# Altium schematic symbol library AdamsParts.SchLib: 265 symbols (part 2 of 3)
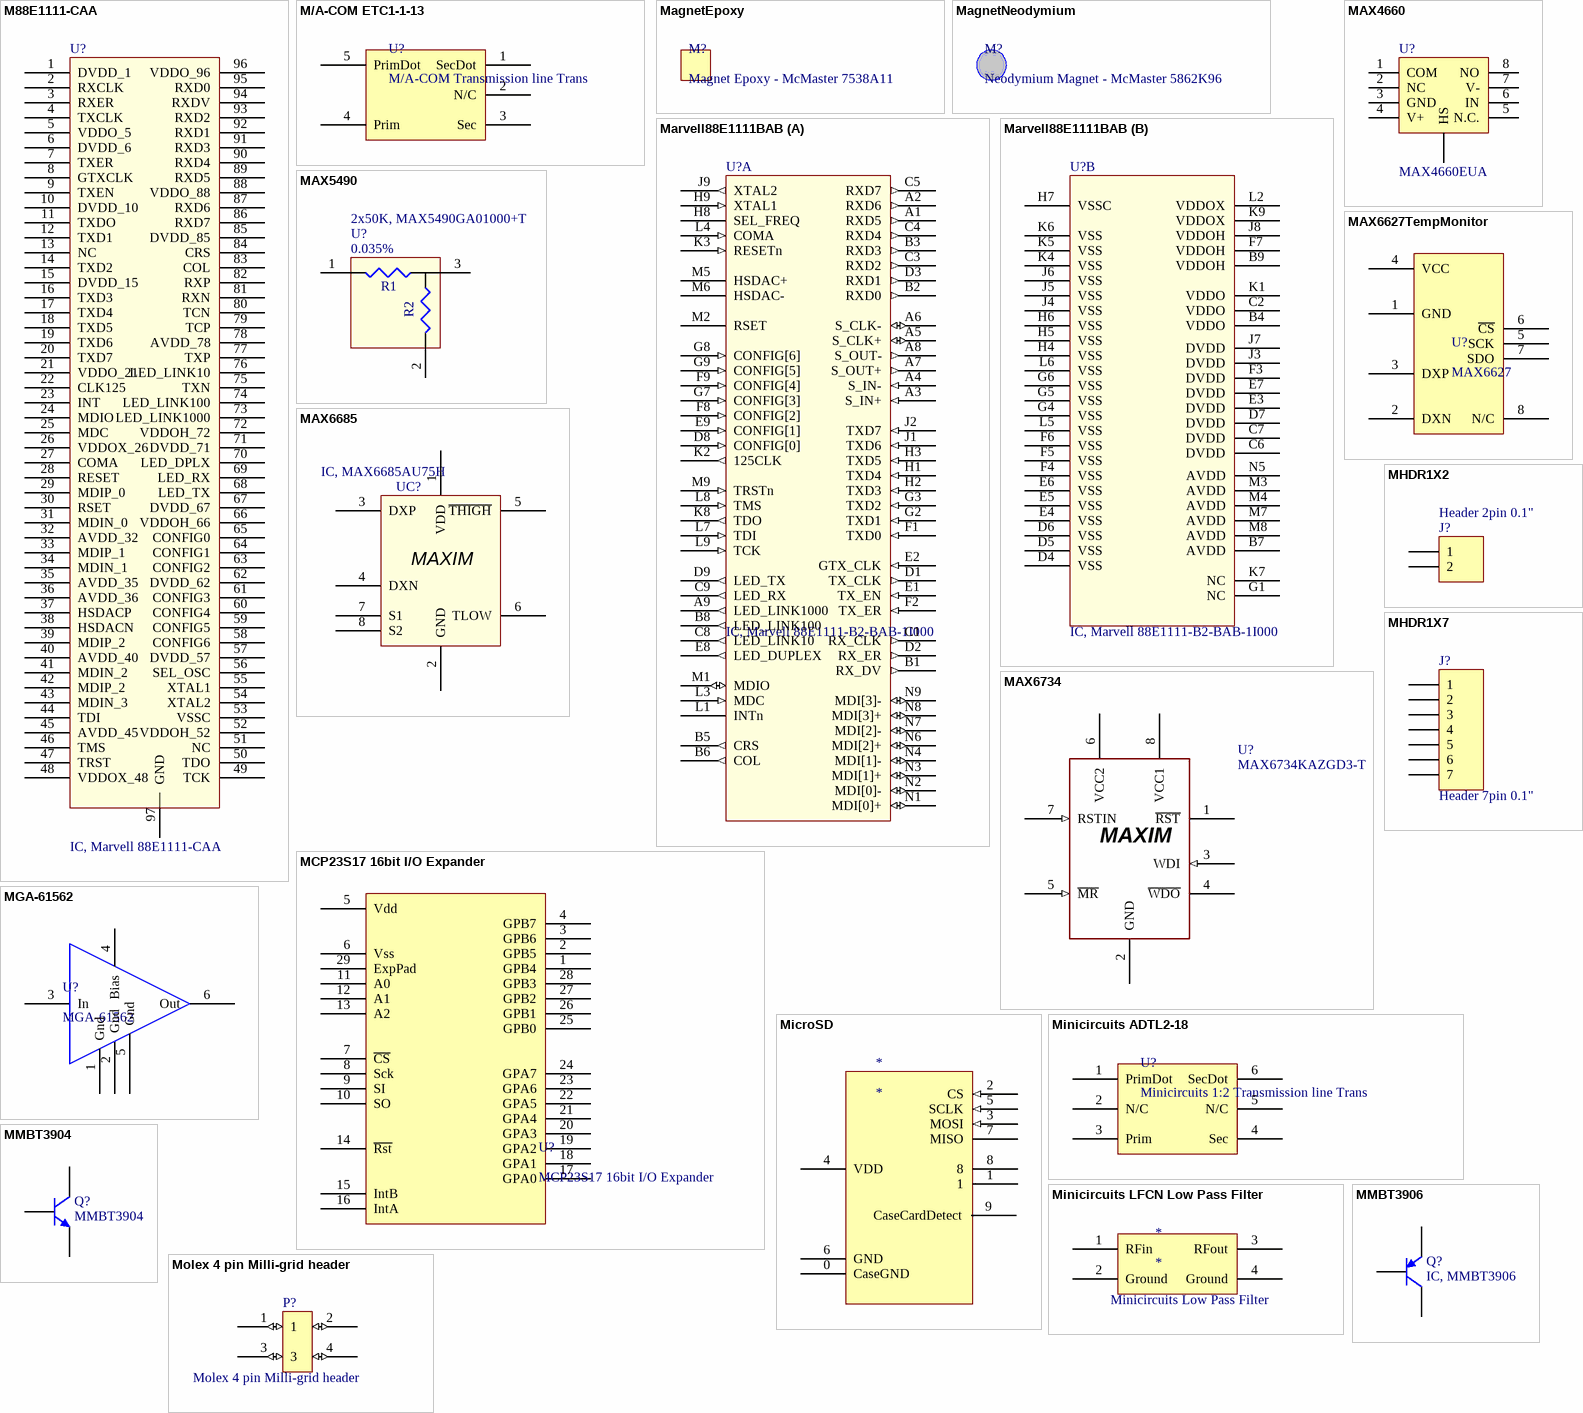
[diagram p21: symbols M88E1111-CAA to Molex 4 pin Milli-grid header]

## M88E1111-CAA
designator U?, comment IC, Marvell 88E1111-CAA
PHY 10/100/1000 Alaska Single-Port Gigabit Transceiver
footprint BCC_96 (96-lead Bump Chip Carrier)
pins: 1 DVDD_1, 2 RXCLK, 3 RXER, 4 TXCLK, 5 VDDO_5, 6 DVDD_6, 7 TXER, 8 GTXCLK, 9 TXEN, 10 DVDD_10, 11 TXDO, 12 TXD1, 13 NC, 14 TXD2, 15 DVDD_15, 16 TXD3, 17 TXD4, 18 TXD5, 19 TXD6, 20 TXD7, 21 VDDO_21, 22 CLK125, 23 INT, 24 MDIO, 25 MDC, 26 VDDOX_26, 27 COMA, 28 RESET, 29 MDIP_0, 30 RSET, 31 MDIN_0, 32 AVDD_32, 33 MDIP_1, 34 MDIN_1, 35 AVDD_35, 36 AVDD_36, 37 HSDACP, 38 HSDACN, 39 MDIP_2, 40 AVDD_40, 41 MDIN_2, 42 MDIP_2, 43 MDIN_3, 44 TDI, 45 AVDD_45, 46 TMS, 47 TRST, 48 VDDOX_48, 49 TCK, 50 TDO, 51 NC, 52 VDDOH_52, 53 VSSC, 54 XTAL2, 55 XTAL1, 56 SEL_OSC, 57 DVDD_57, 58 CONFIG6, 59 CONFIG5, 60 CONFIG4, 61 CONFIG3, 62 DVDD_62, 63 CONFIG2, 64 CONFIG1, 65 CONFIG0, 66 VDDOH_66, 67 DVDD_67, 68 LED_TX, 69 LED_RX, 70 LED_DPLX, 71 DVDD_71, 72 VDDOH_72, 73 LED_LINK1000, 74 LED_LINK100, 75 TXN, 76 LED_LINK10, 77 TXP, 78 AVDD_78, 79 TCP, 80 TCN, 81 RXN, 82 RXP, 83 COL, 84 CRS, 85 DVDD_85, 86 RXD7, 87 RXD6, 88 VDDO_88, 89 RXD5, 90 RXD4, 91 RXD3, 92 RXD1, 93 RXD2, 94 RXDV, 95 RXD0, 96 VDDO_96, 97 GND

## M/A-COM ETC1-1-13
designator U?, comment M/A-COM Transmission line Trans
footprint M/A-COM ETC1-1-13 (RF 1:1: transformer)
pins: 1 SecDot, 2 N/C, 3 Sec, 4 Prim, 5 PrimDot

## MagnetEpoxy
designator M?, comment Magnet Epoxy - McMaster 7538A11
Magnet Epoxy

## MagnetNeodymium
designator M?, comment Neodymium Magnet - McMaster 5862K96
Neodymium Magnet

## Marvell88E1111BAB
designator U?, comment IC, Marvell 88E1111-B2-BAB-1I000
PHY 10/100/1000 Alaska Single-Port Gigabit Transceiver; Manufacturer: Marvell; Manufacturers P/N: 88E1111-B2-BAB-1I000
footprint BGA117C100P13X9_1400X1000X154 (BGA, 117-Leads, Body 14.0x10.0mm,  Pitch 1.00mm)
part A pins: A1 RXD5 (out), A2 RXD6 (out), A3 S_IN+ (in), A4 S_IN- (in), A5 S_CLK+ (io), A6 S_CLK- (io), A7 S_OUT+ (out), A8 S_OUT- (out), A9 LED_LINK1000 (out), B1 RX_DV (out), B2 RXD0 (out), B3 RXD3 (out), B5 CRS (out), B6 COL (out), B8 LED_LINK100 (out), C1 RX_CLK (out), C3 RXD2 (out), C4 RXD4 (out), C5 RXD7 (out), C8 LED_LINK10 (out), C9 LED_RX (out), D1 TX_CLK (out), D2 RX_ER (out), D3 RXD1 (out), D8 CONFIG[0] (in), D9 LED_TX (out), E1 TX_EN (in), E2 GTX_CLK (in), E8 LED_DUPLEX (out), E9 CONFIG[1] (in), F1 TXD0 (in), F2 TX_ER (in), F8 CONFIG[2] (in), F9 CONFIG[4] (in), G2 TXD1 (in), G3 TXD2 (in), G7 CONFIG[3] (in), G8 CONFIG[6] (in), G9 CONFIG[5] (in), H1 TXD4 (in), H2 TXD3 (in), H3 TXD5 (in), H8 SEL_FREQ, H9 XTAL1 (in), J1 TXD6 (in), J2 TXD7 (in), J9 XTAL2 (out), K2 125CLK (out), K3 RESETn (in), K8 TDO (out), L1 INTn (oc), L3 MDC (in), L4 COMA (in), L7 TDI (in), L8 TMS (in), L9 TCK (in), M1 MDIO (io), M2 RSET, M5 HSDAC+, M6 HSDAC-, M9 TRSTn (in), N1 MDI[0]+ (io), N2 MDI[0]- (io), N3 MDI[1]+ (io), N4 MDI[1]- (io), N6 MDI[2]+ (io), N7 MDI[2]- (io), N8 MDI[3]+ (io), N9 MDI[3]- (io)
part B pins: B4 VDDO, B7 AVDD, B9 VDDOH, C2 VDDO, C6 DVDD, C7 DVDD, D4 VSS (power), D5 VSS (power), D6 VSS (power), D7 DVDD, E3 DVDD, E4 VSS (power), E5 VSS (power), E6 VSS (power), E7 DVDD, F3 DVDD, F4 VSS (power), F5 VSS (power), F6 VSS (power), F7 VDDOH, G1 NC (hiz), G4 VSS (power), G5 VSS (power), G6 VSS (power), H4 VSS (power), H5 VSS (power), H6 VSS (power), H7 VSSC (power), J3 DVDD, J4 VSS (power), J5 VSS (power), J6 VSS (power), J7 DVDD, J8 VDDOH, K1 VDDO, K4 VSS (power), K5 VSS (power), K6 VSS (power), K7 NC (hiz), K9 VDDOX (power), L2 VDDOX (power), L5 VSS (power), L6 VSS (power), M3 AVDD (power), M4 AVDD (power), M7 AVDD (power), M8 AVDD (power), N5 AVDD (power)

## MAX4660
designator U?, comment MAX4660EUA
Analog Switch, 150mA, 25 Ohm (38 Ohm); Manufacturer: Maxim Integrated Products; Footprint: 8-UMAX; Manufacturers P/N: MAX4660EUA
footprint MSOP8-EP
pins: 1 COM, 2 NC, 3 GND (power), 4 V+ (power), 5 N.C., 6 IN, 7 V- (power), 8 NO, 9 HS (power) "GND"

## MAX5490
designator U?, comment 2x50K, MAX5490GA01000+T  Param: 0.035%
100k Precision-Matched Resistor-Divider 0.035%; Manufacturer: Maxim Integrated Products; Manufacturers P/N: MAX5490GA01000+T-ND; Footprint: SOT-23
footprint SOT23
pins: 1 P1, 2 P2, 3 P3
text: R1; R2

## MAX6627TempMonitor
designator U?, comment MAX6627
Temperature Monitor
footprint SOT23-8 (SSOP; 8 Leads; Body Width 1.6 mm; Pitch 0.65 mm)
pins: 1 GND, 2 DXN, 3 DXP, 4 VCC, 5 SCK, 6 ~{CS}, 7 SDO, 8 N/C

## MAX6685
designator UC?, comment IC, MAX6685AU75H
Dual-Output Remote-Junction Temperature Switch
footprint UMAX8 (Shrink Small Outline; 8 Leads; Body Width 3 mm; Pitch 0.65 mm)
footprint uSOP8
pins: 1 VDD (power), 2 GND (power), 3 DXP, 4 DXN, 5 ~{THIGH}, 6 TLOW, 7 S1, 8 S2
text: MAXIM

## MAX6734
designator U?, comment MAX6734KAZGD3-T
Watchdog, uP Supervisory Circuit; Manufacturer: Maxim Integrated Products; Footprint: *; Manufacturers P/N: MAX6734KAZGD3-T
footprint SOT23-8
pins: 1 ~{RST} (oc), 2 GND (power), 3 WDI (in), 4 ~{WDO} (oc), 5 ~{MR} (in), 6 VCC2 (power), 7 RSTIN (in), 8 VCC1 (power)
text: MAXIM

## MCP23S17 16bit I/O Expander
designator U?
footprint QFN65P600X600X100-28M (QFN, 28-Leads, Body 6.0x6.0mm (max), Pitch 0.65mm, IPC Low Density)
pins: 1 GPB4, 2 GPB5, 3 GPB6, 4 GPB7, 5 Vdd, 6 Vss, 7 ~{CS}, 8 Sck, 9 SI, 10 SO, 11 A0, 12 A1, 13 A2, 14 ~{Rst}, 15 IntB, 16 IntA, 17 GPA0, 18 GPA1, 19 GPA2, 20 GPA3, 21 GPA4, 22 GPA5, 23 GPA6, 24 GPA7, 25 GPB0, 26 GPB1, 27 GPB2, 28 GPB3, 29 ExpPad

## MGA-61562
designator U?
Low noise amplifier
footprint MGA-61562
pins: 1 Gnd, 2 Gnd, 3 In, 4 Bias, 5 Gnd, 6 Out

## MHDR1X2
designator J?, comment Header 2pin 0.1"
Header, 2-Pin; Manufacturer: Digikey; Manufacturers P/N: A26508-02-ND; LatestRevisionDate: 17-Jul-2002; LatestRevisionNote: Re-released for DXP Platform.; Publisher: Altium Limited
footprint MHDR1X2
signal-integrity model Connector
pins: 1, 2

## MHDR1X7
designator J?, comment Header 7pin 0.1"
Header, 7-Pin (Any equivalent - may need to be value added); Manufacturer: Digikey; Manufacturers P/N: A26508-07-ND; LatestRevisionDate: 17-Jul-2002; LatestRevisionNote: Re-released for DXP Platform.; Publisher: Altium Limited
footprint MHDR1X7 (Connector; Header; 7 Position)
signal-integrity model Connector
pins: 1, 2, 3, 4, 5, 6, 7

## MicroSD
designator *
footprint MicroSD (MicroSD card from Multicomp (TFCMF-20815B0T0))
pins: 0 CaseGND, 1, 2 CS (in), 3 MOSI (in), 4 VDD, 5 SCLK (in), 6 GND, 7 MISO (oc), 8, 9 CaseCardDetect

## Minicircuits ADTL2-18
designator U?, comment Minicircuits 1:2 Transmission line Trans
footprint ADTL2-18 (Minicircuits 1:2 balun)
pins: 1 PrimDot, 2 N/C, 3 Prim, 4 Sec, 5 N/C, 6 SecDot

## Minicircuits LFCN Low Pass Filter
designator *
pins: 1 RFin, 2 Ground, 3 RFout, 4 Ground
text: Minicircuits Low Pass Filter

## MMBT3904
designator Q?
Transistor, NPN Switching; Manufacturer: Fairchild Semiconductor; Footprint: SOT23; Manufacturers P/N: MMBT3904
signal-integrity model MMBT3904
footprint SOT23
pins: 1 B, 2 E, 3 C

## MMBT3906
designator Q?, comment IC, MMBT3906
PNP Switching Transistor; Published: 17-Sep-2003; DatasheetDocument: 11-Apr-2000; PackageDocument: May-1999; PackageReference: SOT23; Publisher: Altium Limited; ComponentLink1Description: Manufacturer Link; ComponentLink1URL: http://www.semiconductors.philips.com/; ComponentLink2Description: Datasheet; ComponentLink2URL: http://www.semiconductors.philips.com/acrobat/datasheets/MMBT3906_2.pdf
footprint SOT23 (SOT-23; 3 Leads; Body 3.0 x 2.5 mm, inc. leads (LxW max))
simulation model QMMBT3906 (PNP)
signal-integrity model MMBT3906
pins: 1 B, 2 E, 3 C

## Molex 4 pin Milli-grid header
designator P?
footprint Molex 4 pin Milli-grid header (Footprint not found)
pins: 1 (io), 2 (io), 3 (io), 4 (io)

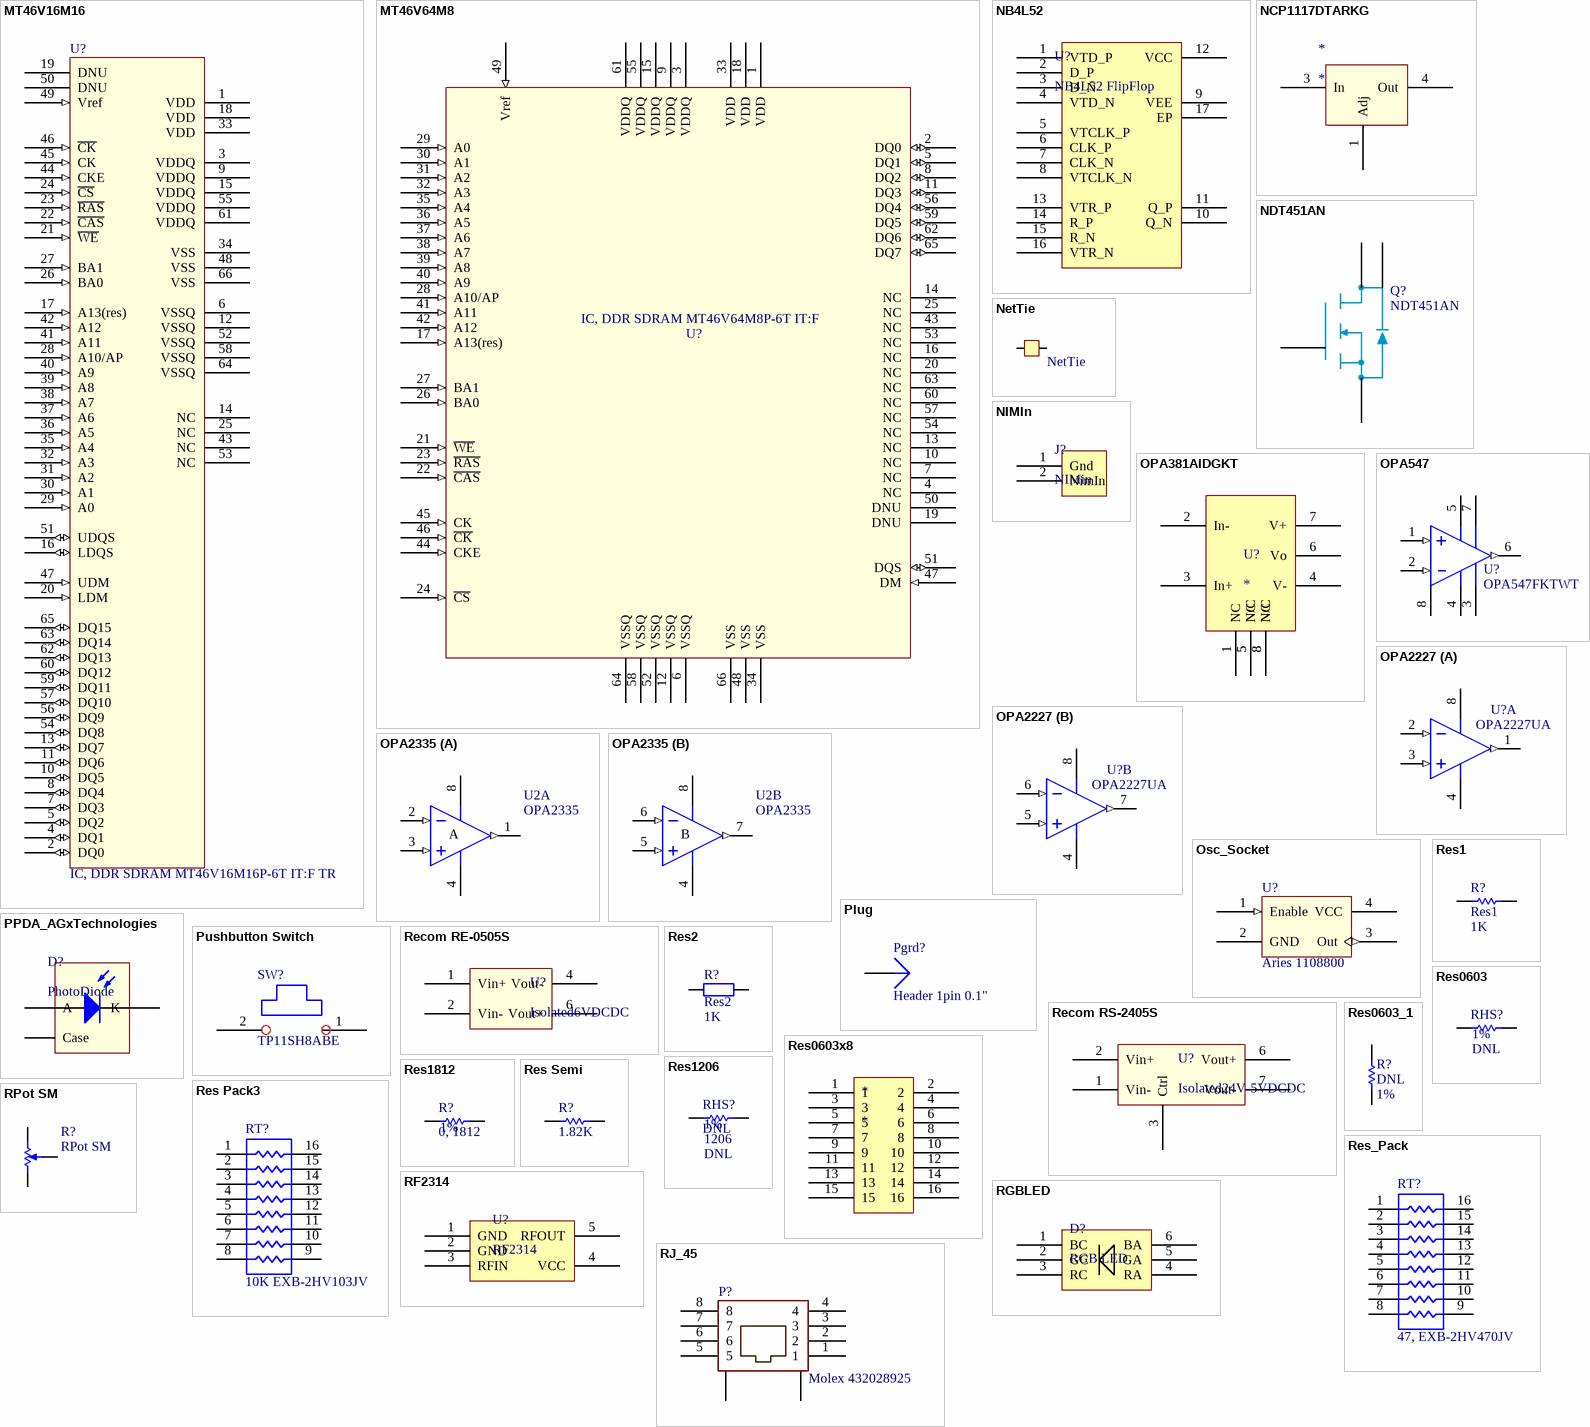
[diagram p7: symbols MT46V16M16 to RPot SM]

## MT46V16M16
designator U?, comment IC, DDR SDRAM MT46V16M16P-6T IT:F TR
256Mb, 4Meg X 16 X 4 banks DDR SDRAM
footprint TSOP-66
pins: 1 VDD (power), 2 DQ0 (io), 3 VDDQ (power), 4 DQ1 (io), 5 DQ2 (io), 6 VSSQ (power), 7 DQ3 (io), 8 DQ4 (io), 9 VDDQ (power), 10 DQ5 (io), 11 DQ6 (io), 12 VSSQ (power), 13 DQ7 (io), 14 NC, 15 VDDQ (power), 16 LDQS (io), 17 A13(res) (in), 18 VDD (power), 19 DNU, 20 LDM (in), 21 ~{WE} (in), 22 ~{CAS} (in), 23 ~{RAS} (in), 24 ~{CS} (in), 25 NC, 26 BA0 (in), 27 BA1 (in), 28 A10/AP (in), 29 A0 (in), 30 A1 (in), 31 A2 (in), 32 A3 (in), 33 VDD (power), 34 VSS (power), 35 A4 (in), 36 A5 (in), 37 A6 (in), 38 A7 (in), 39 A8 (in), 40 A9 (in), 41 A11 (in), 42 A12 (in), 43 NC, 44 CKE (in), 45 CK (in), 46 ~{CK} (in), 47 UDM (in), 48 VSS (power), 49 Vref (in), 50 DNU, 51 UDQS (io), 52 VSSQ (power), 53 NC, 54 DQ8 (io), 55 VDDQ (power), 56 DQ9 (io), 57 DQ10 (io), 58 VSSQ (power), 59 DQ11 (io), 60 DQ12 (io), 61 VDDQ (power), 62 DQ13 (io), 63 DQ14 (io), 64 VSSQ (power), 65 DQ15 (io), 66 VSS (power)

## MT46V64M8
designator U?, comment IC, DDR SDRAM MT46V64M8P-6T IT:F
512 Mb, 16Meg X 8 X 4 banks DDR SDRAM; Manufacturer: Micron Technology; Manufacturers P/N: MT46V64M8P-6T IT:F
footprint TSOP-66
pins: 1 VDD (power), 2 DQ0 (io), 3 VDDQ (power), 4 NC, 5 DQ1 (io), 6 VSSQ (power), 7 NC, 8 DQ2 (io), 9 VDDQ (power), 10 NC, 11 DQ3 (io), 12 VSSQ (power), 13 NC, 14 NC, 15 VDDQ (power), 16 NC, 17 A13(res) (in), 18 VDD (power), 19 DNU, 20 NC, 21 ~{WE} (in), 22 ~{CAS} (in), 23 ~{RAS} (in), 24 ~{CS} (in), 25 NC, 26 BA0 (in), 27 BA1 (in), 28 A10/AP (in), 29 A0 (in), 30 A1 (in), 31 A2 (in), 32 A3 (in), 33 VDD (power), 34 VSS (power), 35 A4 (in), 36 A5 (in), 37 A6 (in), 38 A7 (in), 39 A8 (in), 40 A9 (in), 41 A11 (in), 42 A12 (in), 43 NC, 44 CKE (in), 45 CK (in), 46 ~{CK} (in), 47 DM (in), 48 VSS (power), 49 Vref (in), 50 DNU, 51 DQS (io), 52 VSSQ (power), 53 NC, 54 NC, 55 VDDQ (power), 56 DQ4 (io), 57 NC, 58 VSSQ (power), 59 DQ5 (io), 60 NC, 61 VDDQ (power), 62 DQ6 (io), 63 NC, 64 VSSQ (power), 65 DQ7 (io), 66 VSS (power)

## NB4L52
designator U?, comment NB4L52 FlipFlop
FlipFlop fully differential GHz
footprint QFN50P325X325X100-16N (QFN, 16-Leads, Body 3.3x3.3mm (max), Pitch 0.50mm, IPC Medium Density)
pins: 1 VTD_P, 2 D_P, 3 D_N, 4 VTD_N, 5 VTCLK_P, 6 CLK_P, 7 CLK_N, 8 VTCLK_N, 9 VEE, 10 Q_N, 11 Q_P, 12 VCC, 13 VTR_P, 14 R_P, 15 R_N, 16 VTR_N, 17 EP

## NCP1117DTARKG
designator *
footprint TO-263 (D2-PAK/TO-263-AB; 3 Leads (1 Cropped); Body 15.9 (inc. leads) x 10.4 mm (LxW max))
pins: 1 Adj, 3 In, 4 Out

## NDT451AN
designator Q?
N type Mosfet  - 7.3A, 30V
footprint sot223
pins: 1 G, 2 D, 3 S, 4 Tab

## NetTie
designator NT?  (net tie, no BOM)
footprint NetTie
pins: 0, 1

## NIMIn
designator J?, comment NIMin
footprint NIMin
pins: 1 Gnd, 2 NimIn

## OPA381AIDGKT
designator U?
OPA381
footprint TSOP65P490X110-8N (TSOP, 8-Leads, Body 3.1x3.1mm (max), Pitch 0.65mm, IPC Medium Density)
pins: 1 NC, 2 In-, 3 In+, 4 V-, 5 N/C, 5 NC, 6 Vo, 7 V+, 8 N/C, 8 NC

## OPA547
designator U?, comment OPA547FKTWT
Amp, High-Voltage, High-Current Op Amp; Manufacturer: Texas Instruments; Footprint: TO-263-7; Manufacturers P/N: OPA547FKTWT
footprint D2PAK-7PIN
pins: 1 IN+ (in), 2 IN- (in), 3 Ilim, 4 Vss (power), 5 Vcc (power), 6 OUT (out), 7 E/S, 8 SH (power)

## OPA2227
designator U?, comment OPA2227UA
Amp, High Precision, Low Noise  Op Amp; Manufacturer: Texas Instruments; Footprint: *; Manufacturers P/N: OPA2227UA
footprint SO8
part A pins: 1 OUT (out), 2 IN- (in), 3 IN+ (in), 4 GND (power), 8 VDD (power)
part B pins: 4 GND (power), 5 IN+ (in), 6 IN- (in), 7 OUT (out), 8 VDD (power)

## OPA2335
designator U2
Dual Precision Operational Amplifier; Note: 206; Published: 8-Jun-2000; LatestRevisionDate: 29-May-2009; LatestRevisionNote: Component Body Added.; DatasheetVersion: Jan-1996; PackageVersion: N8 1002; PackageReference: N8; Publisher: Altium Limited; PackageDescription: DIP, Plastic, 8-Pin, Row Spacing 7.62 mm, Pitch 2.54 mm; ComponentLink1Description: Manufacturer Link; ComponentLink1URL: http://www.linear.com/; ComponentLink2Description: Datasheet; ComponentLink2URL: http://www.linear.com/pc/downloadDocument.do?navId=H0,C1,C1154,C1009,C1021,P1223,D3743
footprint SO8
pins on every part: 4 V- (power), 8 V+ (power)
part A pins: 1 OUT (out), 2 IN- (in), 3 IN+ (in)
part B pins: 5 IN+ (in), 6 IN- (in), 7 OUT (out)
part A text: A
part B text: B

## Osc_Socket
designator U?, comment Aries 1108800
CONN, Oscillator Socket, Half Size; Manufacturer: Aries Electronics; Footprint: *; Manufacturers P/N: 1108800
footprint XTAL-OSC/DIP8 (Footprint not found)
pins: 1 Enable (in), 2 GND (power), 3 Out (out), 4 VCC (power)

## Plug
designator Pgrd?, comment Header 1pin 0.1"
Header, 0.1"  1-Pin straight (Any equivalent - may need to be value added); Manufacturer: Digikey; Manufacturers P/N: A26508-01-ND; Footprint: *
footprint PIN1
signal-integrity model Connector
pins: 1

## PPDA_AGxTechnologies
designator D?, comment PhotoDiode
PhotoDiode 1100nm to 1650nm
footprint PPDA (Photodiode with pigtail)
pins: 1 K, 2 A, 3 Case

## Pushbutton Switch
designator SW?, comment TP11SH8ABE
Switch, Pushbutton FrontPanel; Manufacturer: C&K Components; Footprint: *; Manufacturers P/N: TP11SH8ABE
footprint TP11SH8ABE
pins: 1, 2

## Recom RE-0505S
designator U?, comment Isolated6VDCDC
Isolated 6V DC-DC
footprint RECOM_DCDC_SIP (DC-DC Converter)
pins: 1 Vin+, 2 Vin-, 4 Vout-, 6 Vout+

## Recom RS-2405S
designator U?, comment Isolated24V-5VDCDC
18-36V input, 5V output
footprint RECOM_RS-2405S (DC-DC Converter)
pins: 1 Vin-, 2 Vin+, 3 Ctrl, 5 NC hidden, 6 Vout+, 7 Vout-, 8 NC hidden

## Res1
designator R?  value 1K
Resistor; Published: 8-Jun-2000; LatestRevisionDate: 17-Jul-2002; LatestRevisionNote: Re-released for DXP Platform.; PackageReference: AXIAL-0.3; Publisher: Altium Limited
simulation model RESISTOR (Resistor)
signal-integrity model Res
footprint Model Name (Footprint not found)
footprint Model Name (Footprint not found)
footprint AXIAL-0.3 (Axial Device, Thru-Hole; 2 Leads; 0.3 in Pin Spacing)
footprint AXIAL-0.4 (Axial Device, Thru-Hole; 2 Leads; 0.4 in Pin Spacing)
footprint AXIAL-0.5 (Axial Device, Thru-Hole; 2 Leads; 0.5 in Pin Spacing)
footprint AXIAL-0.6 (Axial Device, Thru-Hole; 2 Leads; 0.6 in Pin Spacing)
footprint AXIAL-0.7 (Axial Device, Thru-Hole; 2 Leads; 0.7 in Pin Spacing)
footprint AXIAL-0.8 (Axial Device, Thru-Hole; 2 Leads; 0.8 in Pin Spacing)
footprint AXIAL-0.9 (Axial Device, Thru-Hole; 2 Leads; 0.9 in Pin Spacing)
footprint AXIAL-1.0 (Axial Device, Thru-Hole; 2 Leads; 1.0 in Pin Spacing)
footprint Model Name (Footprint not found)
pins: 1, 2

## Res2
designator R?  value 1K
Resistor; Published: 8-Jun-2000; LatestRevisionDate: 17-Jul-2002; LatestRevisionNote: Re-released for DXP Platform.; PackageReference: AXIAL-0.4; Publisher: Altium Limited
footprint AXIAL-0.4 (Axial Device, Thru-Hole; 2 Leads; 0.4 in Pin Spacing)
simulation model RESISTOR (Resistor)
signal-integrity model Res
pins: 1, 2

## Res0603
designator RHS?  value DNL  Param: 1%
Resistor; Param1: 100ppm/C; TechInfo: *
simulation model RESISTOR (Resistor)
signal-integrity model Res
footprint 0603
footprint 0805
pins: 1, 2

## Res0603_1
designator R?, comment value DNL  Param: 1%  (hidden comment: Res0603)
DNL; Part constraints: 294 0603 1%; Param1: 100ppm/C; CanPurchaseFrom: Digikey; TechInfo: *
simulation model RESISTOR (Resistor)
signal-integrity model Res
footprint 0603
footprint 0805
pins: 1, 2

## Res0603x8
designator *
pins: 1, 2, 3, 4, 5, 6, 7, 8, 9, 10, 11, 12, 13, 14, 15, 16

## Res1206
designator RHS?, comment DNL  Param: 1%  Footprint: 1206
Resistor; Param1: 100ppm/C; TechInfo: *; Value: DNL
simulation model RESISTOR (Resistor)
signal-integrity model Res
footprint CR1608-0603M (Chip Resistor; Body 1.6 x 0.8 mm (LxW typ))
footprint 1206
pins: 1, 2

## Res1812
designator R?, comment 0, 1812  Param: 1%
Resistor; Param1: 100ppm/C; Value: DNL; TechInfo: *
simulation model RESISTOR (Resistor)
signal-integrity model Res
pins: 1, 2

## Res Pack3
designator RT?, comment 10K EXB-2HV103JV
Isolated Resistor Network; Published: 24-Mar-1999; LatestRevisionDate: 17-Jul-2002; LatestRevisionNote: Re-released for DXP Platform.; Publisher: Altium Limited
footprint SO-G16/Z8.5 (Small Outline; 16 Leads; Body Width 5.6 mm; Pitch 1.27 mm)
simulation model respack_8 (Spice Subcircuit)
footprint 0402_Array_2HV
pins: 1, 2, 3, 4, 5, 6, 7, 8, 9, 10, 11, 12, 13, 14, 15, 16

## Res Semi
designator R?, comment 1.82K
RES 1.82K OHM 1/10W 1% 0603 SMD (or Equivalent); Manufacturer: Vishay/Dale; Manufacturers P/N: CRCW06031K82FKEA; Published: 8-Jun-2000; LatestRevisionDate: 17-Jul-2002; LatestRevisionNote: Re-released for DXP Platform.; Publisher: Altium Limited
footprint CR1608-0603
simulation model RES (Semiconductor Resistor)
signal-integrity model Res Semi
pins: 1, 2

## Res_Pack
designator RT?, comment 47, EXB-2HV470JV
8x 0402 RES ARRAY 47 OHM 5%  SMD; Manufacturer: Panasonic - ECG; Footprint: 0402_Array_2HV; Manufacturers P/N: EXB-2HV470JV
footprint 0402_Array_2HV
pins: 1, 2, 3, 4, 5, 6, 7, 8, 9, 10, 11, 12, 13, 14, 15, 16

## RF2314
designator U?
footprint RF2314 (SOT23, 5-Leads, Body 2.9x3.0mm (max), Pitch 0.95mm, IPC Medium Density)
pins: 1 GND, 2 GND, 3 RFIN, 4 VCC, 5 RFOUT

## RGBLED
designator D?, comment RGB LED
footprint RGBLED
pins: 1 BC, 2 GC, 3 RC, 4 RA, 5 GA, 6 BA

## RJ_45
designator P?, comment Molex 432028925
CONN, RJ45; Manufacturers P/N: 0432028925; Footprint: *; Manufacturer: Molex
footprint RJ45
pins: 1, 2, 3, 4, 5, 6, 7, 8, 9 GND (power), 10 GND (power)

## RPot SM
designator R?
Square Trimming Potentiometer; Published: 17-Dec-2003; DatasheetVersion: Oct-2003; PackageReference: POT4MM-2; Publisher: Altium Limited; ComponentLink1Description: Manufacturer Link; ComponentLink1URL: http://bourns.com/2/search.html
footprint POT4MM-2 (Square Trimming Potentiometer)
pins: CCW -, CW +, W
1 alternate drawing of the same symbol

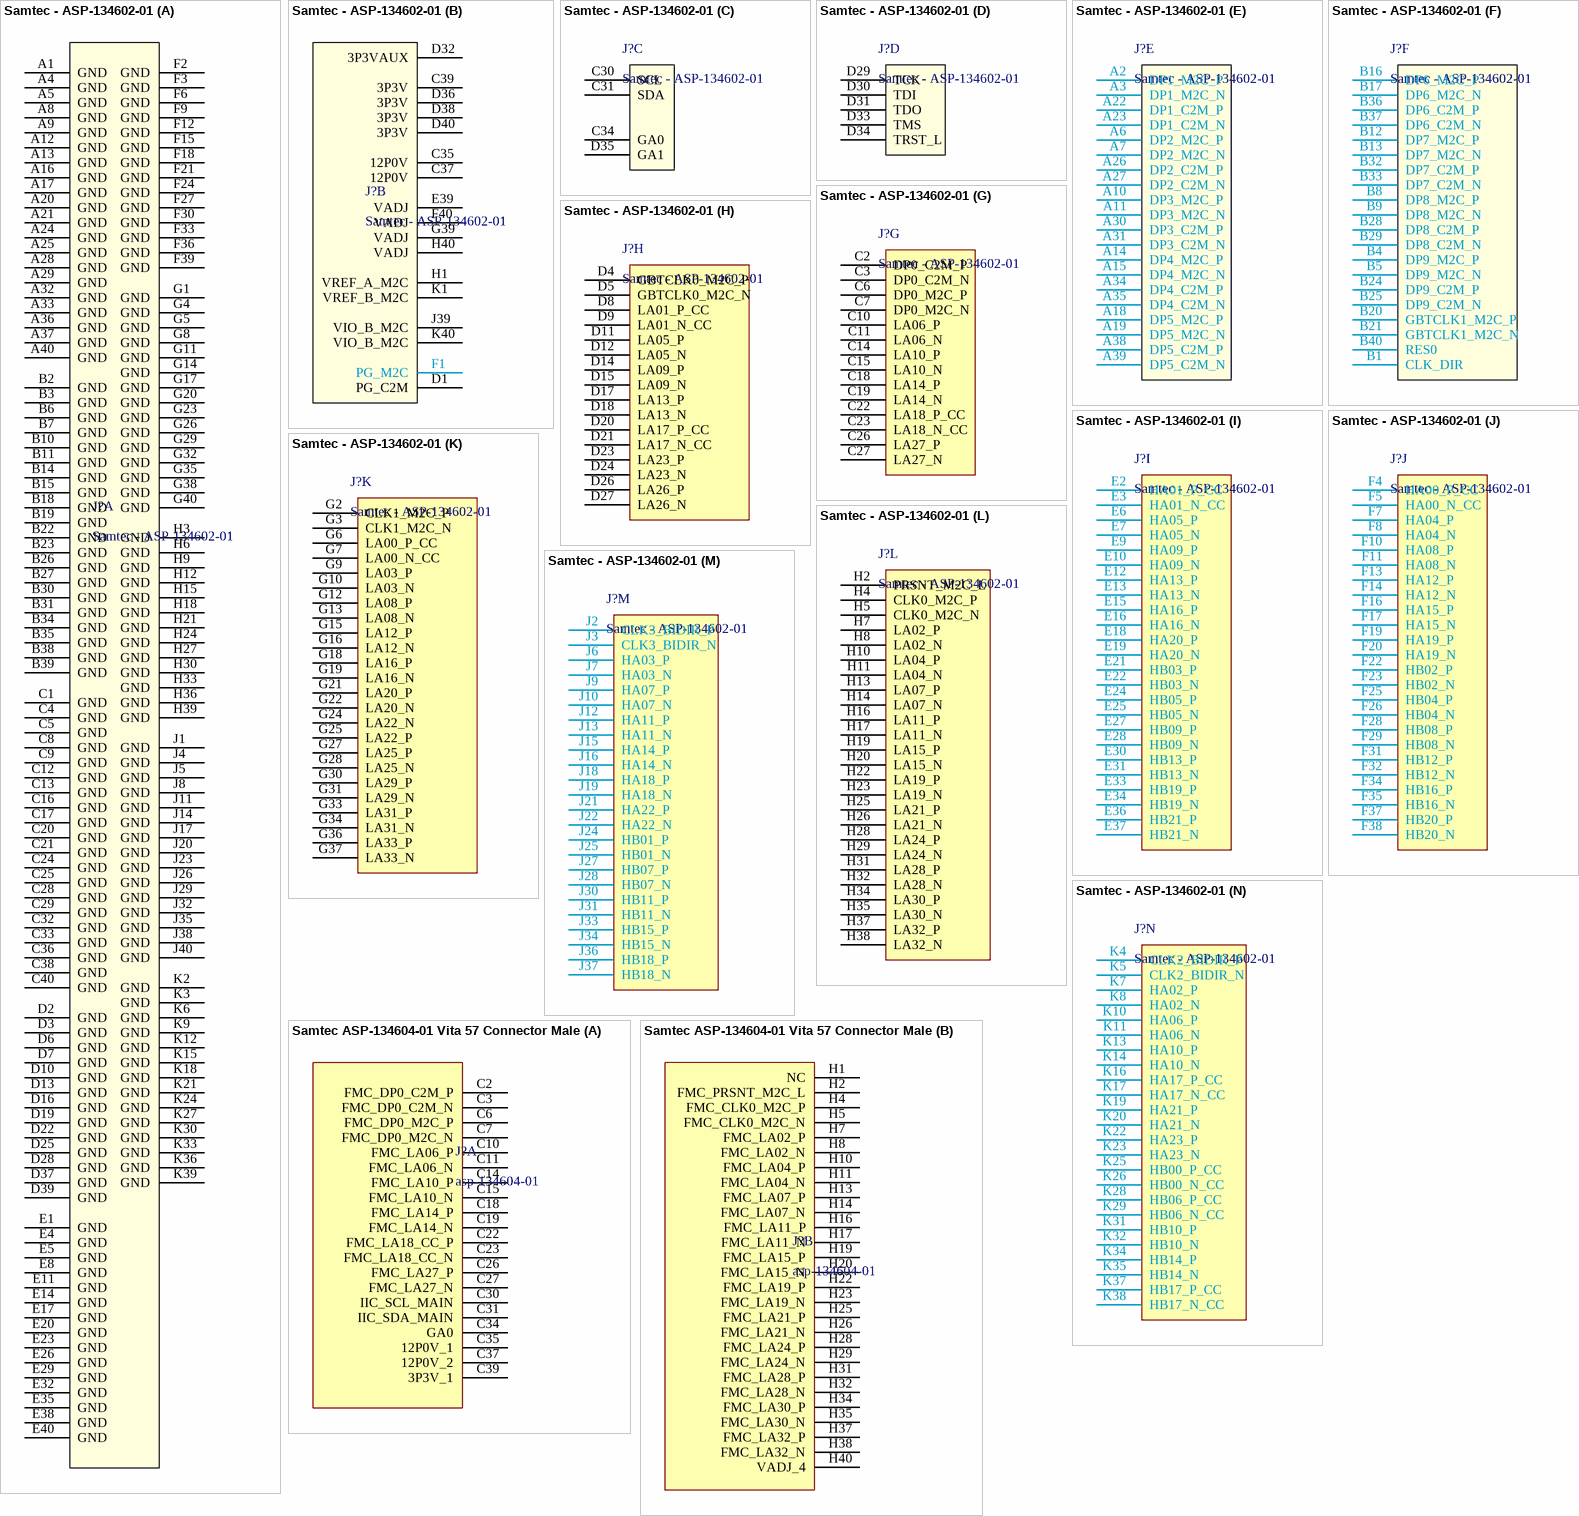
[diagram p8: symbols Samtec - ASP-134602-01 to Samtec ASP-134604-01 Vita 57 Connector Male]

## Samtec - ASP-134602-01
designator J?
footprint FCM-ASP_134602-01 (400pin FCM connector VITA)
part A pins: A1 GND, A4 GND, A5 GND, A8 GND, A9 GND, A12 GND, A13 GND, A16 GND, A17 GND, A20 GND, A21 GND, A24 GND, A25 GND, A28 GND, A29 GND, A32 GND, A33 GND, A36 GND, A37 GND, A40 GND, B2 GND, B3 GND, B6 GND, B7 GND, B10 GND, B11 GND, B14 GND, B15 GND, B18 GND, B19 GND, B22 GND, B23 GND, B26 GND, B27 GND, B30 GND, B31 GND, B34 GND, B35 GND, B38 GND, B39 GND, C1 GND, C4 GND, C5 GND, C8 GND, C9 GND, C12 GND, C13 GND, C16 GND, C17 GND, C20 GND, C21 GND, C24 GND, C25 GND, C28 GND, C29 GND, C32 GND, C33 GND, C36 GND, C38 GND, C40 GND, D2 GND, D3 GND, D6 GND, D7 GND, D10 GND, D13 GND, D16 GND, D19 GND, D22 GND, D25 GND, D28 GND, D37 GND, D39 GND, E1 GND, E4 GND, E5 GND, E8 GND, E11 GND, E14 GND, E17 GND, E20 GND, E23 GND, E26 GND, E29 GND, E32 GND, E35 GND, E38 GND, E40 GND, F2 GND, F3 GND, F6 GND, F9 GND, F12 GND, F15 GND, F18 GND, F21 GND, F24 GND, F27 GND, F30 GND, F33 GND, F36 GND, F39 GND, G1 GND, G4 GND, G5 GND, G8 GND, G11 GND, G14 GND, G17 GND, G20 GND, G23 GND, G26 GND, G29 GND, G32 GND, G35 GND, G38 GND, G40 GND, H3 GND, H6 GND, H9 GND, H12 GND, H15 GND, H18 GND, H21 GND, H24 GND, H27 GND, H30 GND, H33 GND, H36 GND, H39 GND, J1 GND, J4 GND, J5 GND, J8 GND, J11 GND, J14 GND, J17 GND, J20 GND, J23 GND, J26 GND, J29 GND, J32 GND, J35 GND, J38 GND, J40 GND, K2 GND, K3 GND, K6 GND, K9 GND, K12 GND, K15 GND, K18 GND, K21 GND, K24 GND, K27 GND, K30 GND, K33 GND, K36 GND, K39 GND
part B pins: C35 12P0V, C37 12P0V, C39 3P3V, D1 PG_C2M, D32 3P3VAUX, D36 3P3V, D38 3P3V, D40 3P3V, E39 VADJ, F1 PG_M2C, F40 VADJ, G39 VADJ, H1 VREF_A_M2C, H40 VADJ, J39 VIO_B_M2C, K1 VREF_B_M2C, K40 VIO_B_M2C
part C pins: C30 SCL, C31 SDA, C34 GA0, D35 GA1
part D pins: D29 TCK, D30 TDI, D31 TDO, D33 TMS, D34 TRST_L
part E pins: A2 DP1_M2C_P, A3 DP1_M2C_N, A6 DP2_M2C_P, A7 DP2_M2C_N, A10 DP3_M2C_P, A11 DP3_M2C_N, A14 DP4_M2C_P, A15 DP4_M2C_N, A18 DP5_M2C_P, A19 DP5_M2C_N, A22 DP1_C2M_P, A23 DP1_C2M_N, A26 DP2_C2M_P, A27 DP2_C2M_N, A30 DP3_C2M_P, A31 DP3_C2M_N, A34 DP4_C2M_P, A35 DP4_C2M_N, A38 DP5_C2M_P, A39 DP5_C2M_N
part F pins: B1 CLK_DIR, B4 DP9_M2C_P, B5 DP9_M2C_N, B8 DP8_M2C_P, B9 DP8_M2C_N, B12 DP7_M2C_P, B13 DP7_M2C_N, B16 DP6_M2C_P, B17 DP6_M2C_N, B20 GBTCLK1_M2C_P, B21 GBTCLK1_M2C_N, B24 DP9_C2M_P, B25 DP9_C2M_N, B28 DP8_C2M_P, B29 DP8_C2M_N, B32 DP7_C2M_P, B33 DP7_C2M_N, B36 DP6_C2M_P, B37 DP6_C2M_N, B40 RES0
part G pins: C2 DP0_C2M_P, C3 DP0_C2M_N, C6 DP0_M2C_P, C7 DP0_M2C_N, C10 LA06_P, C11 LA06_N, C14 LA10_P, C15 LA10_N, C18 LA14_P, C19 LA14_N, C22 LA18_P_CC, C23 LA18_N_CC, C26 LA27_P, C27 LA27_N
part H pins: D4 GBTCLK0_M2C_P, D5 GBTCLK0_M2C_N, D8 LA01_P_CC, D9 LA01_N_CC, D11 LA05_P, D12 LA05_N, D14 LA09_P, D15 LA09_N, D17 LA13_P, D18 LA13_N, D20 LA17_P_CC, D21 LA17_N_CC, D23 LA23_P, D24 LA23_N, D26 LA26_P, D27 LA26_N
part I pins: E2 HA01_P_CC, E3 HA01_N_CC, E6 HA05_P, E7 HA05_N, E9 HA09_P, E10 HA09_N, E12 HA13_P, E13 HA13_N, E15 HA16_P, E16 HA16_N, E18 HA20_P, E19 HA20_N, E21 HB03_P, E22 HB03_N, E24 HB05_P, E25 HB05_N, E27 HB09_P, E28 HB09_N, E30 HB13_P, E31 HB13_N, E33 HB19_P, E34 HB19_N, E36 HB21_P, E37 HB21_N
part J pins: F4 HA00_P_CC, F5 HA00_N_CC, F7 HA04_P, F8 HA04_N, F10 HA08_P, F11 HA08_N, F13 HA12_P, F14 HA12_N, F16 HA15_P, F17 HA15_N, F19 HA19_P, F20 HA19_N, F22 HB02_P, F23 HB02_N, F25 HB04_P, F26 HB04_N, F28 HB08_P, F29 HB08_N, F31 HB12_P, F32 HB12_N, F34 HB16_P, F35 HB16_N, F37 HB20_P, F38 HB20_N
part K pins: G2 CLK1_M2C_P, G3 CLK1_M2C_N, G6 LA00_P_CC, G7 LA00_N_CC, G9 LA03_P, G10 LA03_N, G12 LA08_P, G13 LA08_N, G15 LA12_P, G16 LA12_N, G18 LA16_P, G19 LA16_N, G21 LA20_P, G22 LA20_N, G24 LA22_N, G25 LA22_P, G27 LA25_P, G28 LA25_N, G30 LA29_P, G31 LA29_N, G33 LA31_P, G34 LA31_N, G36 LA33_P, G37 LA33_N
part L pins: H2 PRSNT_M2C_L, H4 CLK0_M2C_P, H5 CLK0_M2C_N, H7 LA02_P, H8 LA02_N, H10 LA04_P, H11 LA04_N, H13 LA07_P, H14 LA07_N, H16 LA11_P, H17 LA11_N, H19 LA15_P, H20 LA15_N, H22 LA19_P, H23 LA19_N, H25 LA21_P, H26 LA21_N, H28 LA24_P, H29 LA24_N, H31 LA28_P, H32 LA28_N, H34 LA30_P, H35 LA30_N, H37 LA32_P, H38 LA32_N
part M pins: J2 CLK3_BIDIR_P, J3 CLK3_BIDIR_N, J6 HA03_P, J7 HA03_N, J9 HA07_P, J10 HA07_N, J12 HA11_P, J13 HA11_N, J15 HA14_P, J16 HA14_N, J18 HA18_P, J19 HA18_N, J21 HA22_P, J22 HA22_N, J24 HB01_P, J25 HB01_N, J27 HB07_P, J28 HB07_N, J30 HB11_P, J31 HB11_N, J33 HB15_P, J34 HB15_N, J36 HB18_P, J37 HB18_N
part N pins: K4 CLK2_BIDIR_P, K5 CLK2_BIDIR_N, K7 HA02_P, K8 HA02_N, K10 HA06_P, K11 HA06_N, K13 HA10_P, K14 HA10_N, K16 HA17_P_CC, K17 HA17_N_CC, K19 HA21_P, K20 HA21_N, K22 HA23_P, K23 HA23_N, K25 HB00_P_CC, K26 HB00_N_CC, K28 HB06_P_CC, K29 HB06_N_CC, K31 HB10_P, K32 HB10_N, K34 HB14_P, K35 HB14_N, K37 HB17_P_CC, K38 HB17_N_CC

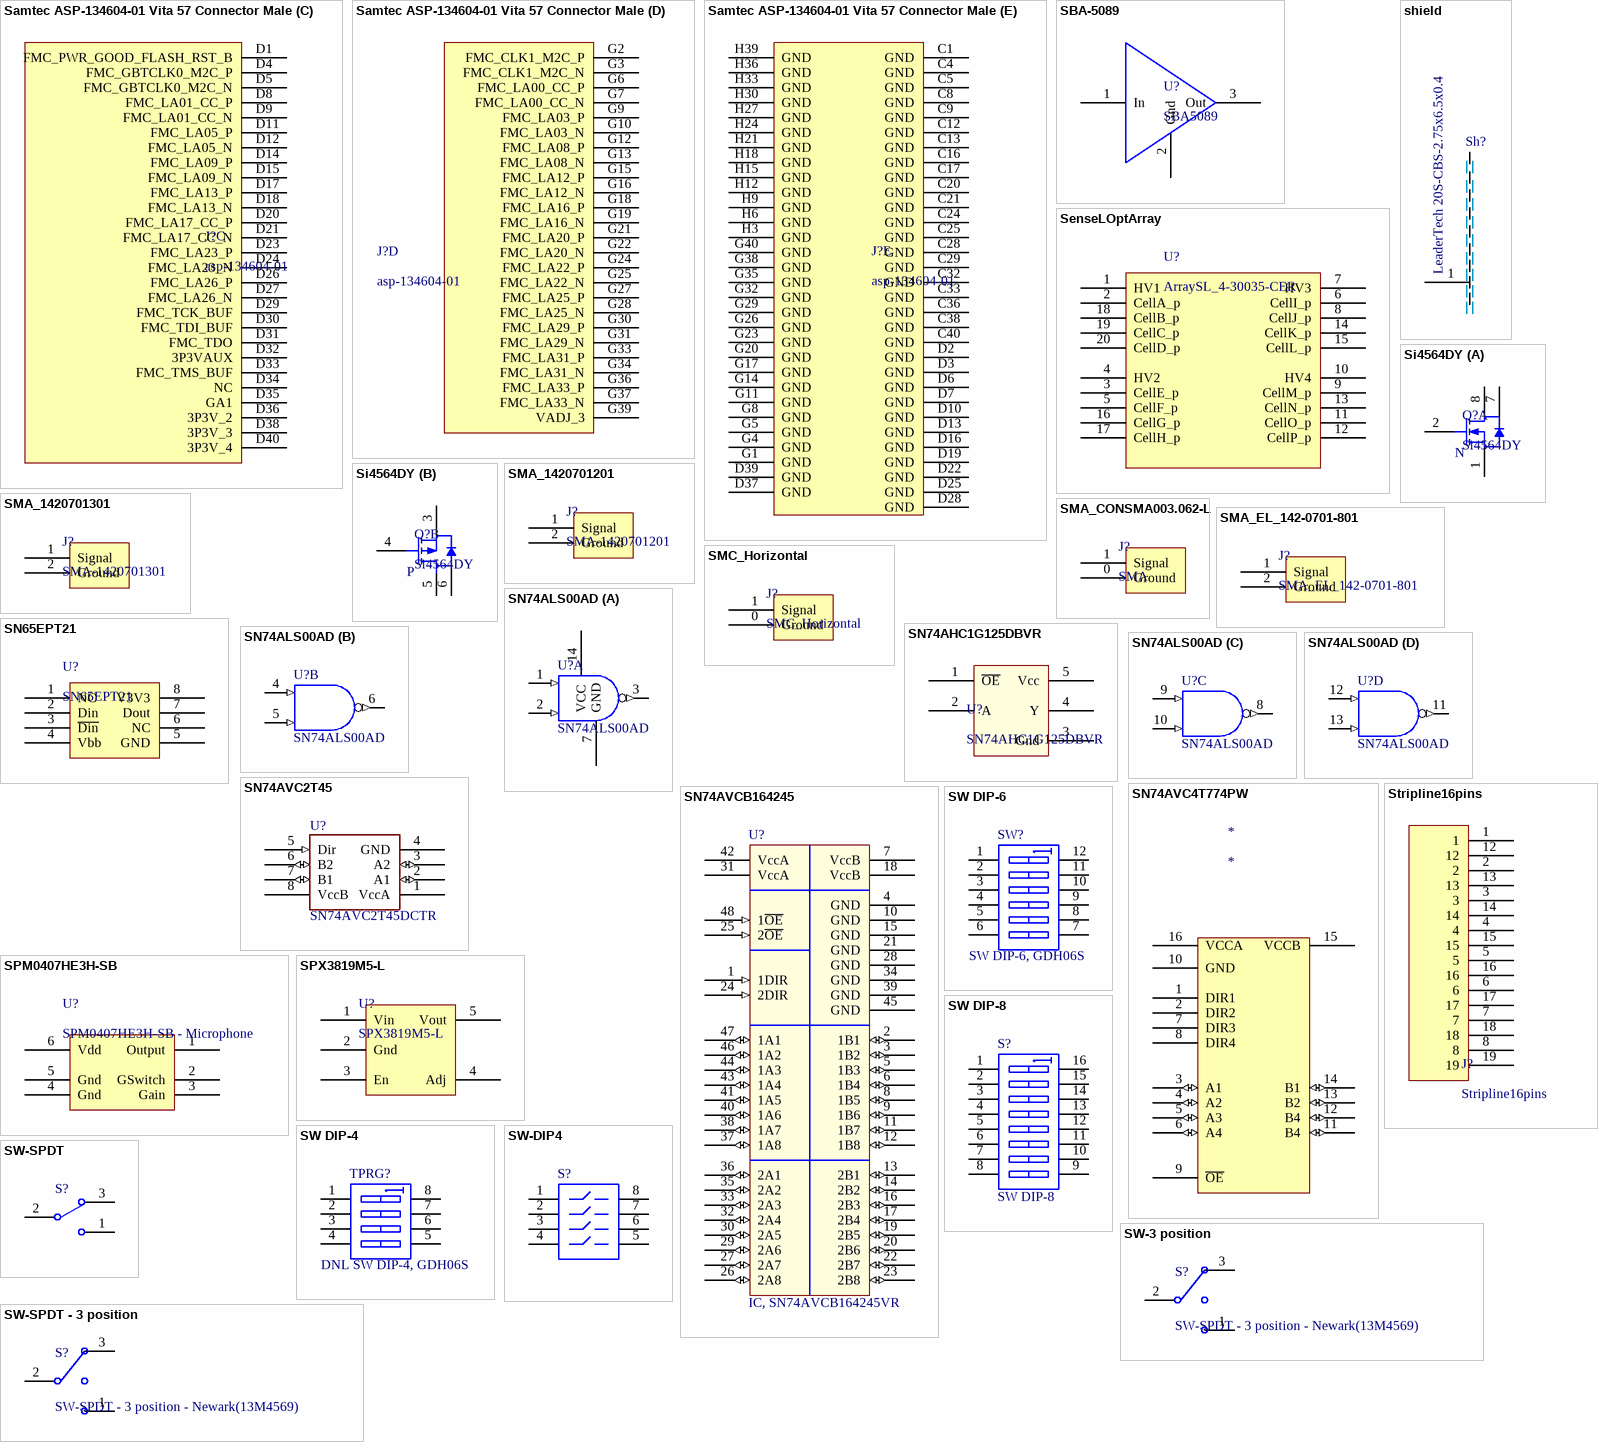
[diagram p9: symbols Samtec ASP-134604-01 Vita 57 Connector Male to SW-SPDT - 3 position]

## Samtec ASP-134604-01 Vita 57 Connector Male
designator J?, comment asp-134604-01
footprint FCM-ASP_134603-01 (160pin FCM connector VITA)
part A pins: C2 FMC_DP0_C2M_P, C3 FMC_DP0_C2M_N, C6 FMC_DP0_M2C_P, C7 FMC_DP0_M2C_N, C10 FMC_LA06_P, C11 FMC_LA06_N, C14 FMC_LA10_P, C15 FMC_LA10_N, C18 FMC_LA14_P, C19 FMC_LA14_N, C22 FMC_LA18_CC_P, C23 FMC_LA18_CC_N, C26 FMC_LA27_P, C27 FMC_LA27_N, C30 IIC_SCL_MAIN, C31 IIC_SDA_MAIN, C34 GA0, C35 12P0V_1, C37 12P0V_2, C39 3P3V_1
part B pins: H1 NC, H2 FMC_PRSNT_M2C_L, H4 FMC_CLK0_M2C_P, H5 FMC_CLK0_M2C_N, H7 FMC_LA02_P, H8 FMC_LA02_N, H10 FMC_LA04_P, H11 FMC_LA04_N, H13 FMC_LA07_P, H14 FMC_LA07_N, H16 FMC_LA11_P, H17 FMC_LA11_N, H19 FMC_LA15_P, H20 FMC_LA15_N, H22 FMC_LA19_P, H23 FMC_LA19_N, H25 FMC_LA21_P, H26 FMC_LA21_N, H28 FMC_LA24_P, H29 FMC_LA24_N, H31 FMC_LA28_P, H32 FMC_LA28_N, H34 FMC_LA30_P, H35 FMC_LA30_N, H37 FMC_LA32_P, H38 FMC_LA32_N, H40 VADJ_4
part C pins: D1 FMC_PWR_GOOD_FLASH_RST_B, D4 FMC_GBTCLK0_M2C_P, D5 FMC_GBTCLK0_M2C_N, D8 FMC_LA01_CC_P, D9 FMC_LA01_CC_N, D11 FMC_LA05_P, D12 FMC_LA05_N, D14 FMC_LA09_P, D15 FMC_LA09_N, D17 FMC_LA13_P, D18 FMC_LA13_N, D20 FMC_LA17_CC_P, D21 FMC_LA17_CC_N, D23 FMC_LA23_P, D24 FMC_LA23_N, D26 FMC_LA26_P, D27 FMC_LA26_N, D29 FMC_TCK_BUF, D30 FMC_TDI_BUF, D31 FMC_TDO, D32 3P3VAUX, D33 FMC_TMS_BUF, D34 NC, D35 GA1, D36 3P3V_2, D38 3P3V_3, D40 3P3V_4
part D pins: G2 FMC_CLK1_M2C_P, G3 FMC_CLK1_M2C_N, G6 FMC_LA00_CC_P, G7 FMC_LA00_CC_N, G9 FMC_LA03_P, G10 FMC_LA03_N, G12 FMC_LA08_P, G13 FMC_LA08_N, G15 FMC_LA12_P, G16 FMC_LA12_N, G18 FMC_LA16_P, G19 FMC_LA16_N, G21 FMC_LA20_P, G22 FMC_LA20_N, G24 FMC_LA22_P, G25 FMC_LA22_N, G27 FMC_LA25_P, G28 FMC_LA25_N, G30 FMC_LA29_P, G31 FMC_LA29_N, G33 FMC_LA31_P, G34 FMC_LA31_N, G36 FMC_LA33_P, G37 FMC_LA33_N, G39 VADJ_3
part E pins: C1 GND, C4 GND, C5 GND, C8 GND, C9 GND, C12 GND, C13 GND, C16 GND, C17 GND, C20 GND, C21 GND, C24 GND, C25 GND, C28 GND, C29 GND, C32 GND, C33 GND, C36 GND, C38 GND, C40 GND, D2 GND, D3 GND, D6 GND, D7 GND, D10 GND, D13 GND, D16 GND, D19 GND, D22 GND, D25 GND, D28 GND, D37 GND, D39 GND, G1 GND, G4 GND, G5 GND, G8 GND, G11 GND, G14 GND, G17 GND, G20 GND, G23 GND, G26 GND, G29 GND, G32 GND, G35 GND, G38 GND, G40 GND, H3 GND, H6 GND, H9 GND, H12 GND, H15 GND, H18 GND, H21 GND, H24 GND, H27 GND, H30 GND, H33 GND, H36 GND, H39 GND

## SBA-5089
designator U?, comment SBA5089
RFMD Amplifier DC-5Ghz
footprint SBA5089
pins: 1 In, 2 Gnd, 3 Out

## SenseLOptArray
designator U?, comment ArraySL_4-30035-CER
Sense L 16 Cell Optical Array
footprint PGA20P (SenseL 16 Cell Optical Array)
pins: 1 HV1, 2 CellA_p, 3 CellE_p, 4 HV2, 5 CellF_p, 6 CellI_p, 7 HV3, 8 CellJ_p, 9 CellM_p, 10 HV4, 11 CellO_p, 12 CellP_p, 13 CellN_p, 14 CellK_p, 15 CellL_p, 16 CellG_p, 17 CellH_p, 18 CellB_p, 19 CellC_p, 20 CellD_p

## shield
designator Sh?, comment LeaderTech 20S-CBS-2.75x6.5x0.4
Grounded RF Shield; Manufacturer: LeaderTech; Manufacturers P/N: 20S-CBS-2.75x6.5x0.4
footprint Shield base
pins: 1

## Si4564DY
designator Q?
footprint SO8
part A pins: 1 S1, 2 G1, 7 D1, 8 D1
part B pins: 3 S2, 4 G2, 5 D2, 6 D2
part A text: N
part B text: P

## SMA_1420701201
designator J?, comment SMA-1420701201
Vertical SMA
footprint SMA-1420701201 (SMA 1420701201 Ghz Connector)
pins: 1 Signal, 2 Ground
1 alternate drawing of the same symbol

## SMA_1420701301
designator J?, comment SMA-1420701301
Horizontal SMA
footprint SMA-1420701301 (SMA 1420701301 Ghz Connector)
pins: 1 Signal, 2 Ground
1 alternate drawing of the same symbol

## SMA_CONSMA003.062-L
designator J?, comment SMA
SMA for box (End launch)
footprint CONSMA003-062 (End launch SMA connector)
pins: 0 Ground, 1 Signal

## SMA_EL_142-0701-801
designator J?
End launch SMA
footprint SMA_EL_142-0701-801
pins: 1 Signal, 2 Ground

## SMC_Horizontal
designator J?
footprint SMC_1169656 (SMC connector - Right angle - through hole)
pins: 0 Ground, 1 Signal

## SN65EPT21
designator U?
footprint SO8/L200
pins: 1 NC, 2 Din, 3 ~{Din}, 4 Vbb, 5 GND, 6 NC, 7 Dout, 8 V3V3

## SN74AHC1G125DBVR
designator U?
Tri-state buffer; Manufacturer: Texas Instruments; CanPurchaseFrom: Digikey; Part constraints: SN74AHC1G125DBVR; Manufacturers P/N: SN74AHC1G125DBVR
footprint SOT23-5
pins: 1 ~{OE}, 2 A, 3 Gnd, 4 Y, 5 Vcc

## SN74ALS00AD
designator U?
Quadruple 2-Input Positive-NAND Gate; Published: 8-Jun-2000; LatestRevisionDate: 13-Apr-2006; LatestRevisionNote: IPC-7351 Footprint Added.; DatasheetVersion: Dec-1994; PackageVersion: Jan-1998; PackageReference: D014; Publisher: Altium Limited; PackageDescription: 14-Pin Small Outline Integrated Circuit 1.27 mm Pitch; Code_IPC: SOIC127P600-14; ComponentLink1Description: Manufacturer Link; ComponentLink1URL: http://www.ti.com/; ComponentLink2Description: Datasheet; ComponentLink2URL: http://www-s.ti.com/sc/ds/sn54as00.pdf; ComponentLink3Description: Packaging Specification; ComponentLink3URL: http://focus.ti.com/lit/ml/mpds177/mpds177.pdf
footprint D014_N (SOIC, 14-Leads, Body 8.7x3.9mm, Pitch 1.27mm, IPC Medium Density)
footprint D014_L (SOIC, 14-Leads, Body 8.7x3.9mm, Pitch 1.27mm, IPC High Density)
footprint D014_M (SOIC, 14-Leads, Body 8.7x3.9mm, Pitch 1.27mm, IPC Low Density)
signal-integrity model SN74ALS00AD
part A pins: 1 A (in), 2 B (in), 3 Y (out), 7 GND, 14 VCC
part B pins: 4 A (in), 5 B (in), 6 Y (out)
part C pins: 8 Y (out), 9 A (in), 10 B (in)
part D pins: 11 Y (out), 12 A (in), 13 B (in)

## SN74AVC2T45
designator U?, comment SN74AVC2T45DCTR
Transceiver, Dual-bit Dual-supply Bus; Manufacturer: Texas Instruments; Footprint: *; Manufacturers P/N: SN74AVC2T45DCTR
footprint SM8 (Footprint not found)
pins: 1 VccA (power), 2 A1 (io), 3 A2 (io), 4 GND (power), 5 Dir (in), 6 B2 (io), 7 B1 (io), 8 VccB (power)

## SN74AVC4T774PW
designator *
footprint TSSOP16_M (TSOP, 16-Leads, Body 5x4.4mm, Pitch 0.65mm, IPC Low Density)
pins: 1 DIR1, 2 DIR2, 3 A1 (io), 4 A2 (io), 5 A3 (io), 6 A4 (io), 7 DIR3, 8 DIR4, 9 ~{OE}, 10 GND, 11 B4 (io), 12 B4 (io), 13 B2 (io), 14 B1 (io), 15 VCCB, 16 VCCA

## SN74AVCB164245
designator U?, comment IC, SN74AVCB164245VR
16-Bit Dual-Supply Bus Transceiver with CVT and 3-state
footprint DGV048 (Shrink Small Outline; 48 Leads; Body Width 4.4 mm; Pitch 0.4 mm)
pins: 1 1DIR (in), 2 1B1 (io), 3 1B2 (io), 4 GND (power), 5 1B3 (io), 6 1B4 (io), 7 VccB (power), 8 1B5 (io), 9 1B6 (io), 10 GND (power), 11 1B7 (io), 12 1B8 (io), 13 2B1 (io), 14 2B2 (io), 15 GND (power), 16 2B3 (io), 17 2B4 (io), 18 VccB (power), 19 2B5 (io), 20 2B6 (io), 21 GND (power), 22 2B7 (io), 23 2B8 (io), 24 2DIR (in), 25 2~{OE} (in), 26 2A8 (io), 27 2A7 (io), 28 GND (power), 29 2A6 (io), 30 2A5 (io), 31 VccA (power), 32 2A4 (io), 33 2A3 (io), 34 GND (power), 35 2A2 (io), 36 2A1 (io), 37 1A8 (io), 38 1A7 (io), 39 GND (power), 40 1A6 (io), 41 1A5 (io), 42 VccA (power), 43 1A4 (io), 44 1A3 (io), 45 GND (power), 46 1A2 (io), 47 1A1 (io), 48 1~{OE} (in)

## SPM0407HE3H-SB
designator U?, comment SPM0407HE3H-SB - Microphone
footprint SPM0407HE3H-SB
pins: 1 Output, 2 GSwitch, 3 Gain, 4 Gnd, 5 Gnd, 6 Vdd

## SPX3819M5-L
designator U?
Linear regulator 500mA 0.34V dropout
footprint SOT23-5
pins: 1 Vin, 2 Gnd, 3 En, 4 Adj, 5 Vout

## Stripline16pins
designator J?
footprint Stripline16pins (Stripline 16pins)
pins: 1, 2, 3, 4, 5, 6, 7, 8, 12, 13, 14, 15, 16, 17, 18, 19

## SW DIP-4
designator TPRG?, comment DNL SW DIP-4, GDH06S
DIP Switch, 4 Position, SPST; Published: 24-Mar-1999; LatestRevisionDate: 17-Jul-2002; LatestRevisionNote: Re-released for DXP Platform.; Publisher: Altium Limited; Code_JEDEC: MS-012-AA; Code_IPC: SO8
footprint SO-G8 (Small Outline; 8 Leads; Body Width 3.9 mm; Pitch 1.27 mm)
simulation model dpsw4 (Spice Subcircuit)
pins: 1 A1, 2 A2, 3 A3, 4 A4, 5 B4, 6 B3, 7 B2, 8 B1

## SW DIP-6
designator SW?, comment SW DIP-6, GDH06S
DIP Switch, 6 Position, SPST; Published: 24-Mar-1999; LatestRevisionDate: 17-Jul-2002; LatestRevisionNote: Re-released for DXP Platform.; Publisher: Altium Limited
footprint DIP-12/SW (DIP Switch; 12 Leads)
simulation model dpsw6 (Spice Subcircuit)
footprint DIP_SW_SM6POS (6-position DIP switch)
pins: 1 A1, 2 A2, 3 A3, 4 A4, 5 A5, 6 A6, 7 B6, 8 B5, 9 B4, 10 B3, 11 B2, 12 B1

## SW DIP-8
designator S?
DIP Switch, 8 Position, SPST; Manufacturer: Grayhill Inc; Manufacturers P/N: 97c08st; Published: 24-Mar-1999; LatestRevisionDate: 17-Jul-2002; LatestRevisionNote: Re-released for DXP Platform.; PackageReference: GH1372-ND; Publisher: Altium Limited
footprint DIP_SW_8WAY_SMD (DIP Switch; 16 Leads)
simulation model dpsw8 (Spice Subcircuit)
footprint SW-SO16 (Footprint not found)
pins: 1 A1, 2 A2, 3 A3, 4 A4, 5 A5, 6 A6, 7 A7, 8 A8, 9 B8, 10 B7, 11 B6, 12 B5, 13 B4, 14 B3, 15 B2, 16 B1

## SW-3 position
designator S?, comment SW-SPDT - 3 position - Newark(13M4569)
3 Pos Toggle Switch; Published: 24-Mar-1999; LatestRevisionDate: 17-Dec-2003; LatestRevisionNote: Schematic revised, PCB Footprint replaced.; DatasheetVersion: 05-Dec-2000; PackageReference: TL36WW15050; Publisher: Altium Limited; ComponentLink1Description: Manufacturer Link; ComponentLink1URL: http://www.apem.com
footprint SW-3Pos
pins: 1, 2, 3

## SW-DIP4
designator S?
DIP Switch; Published: 24-Mar-1999; LatestRevisionDate: 17-Jul-2002; LatestRevisionNote: Re-released for DXP Platform.; PackageReference: DIP-8; Publisher: Altium Limited
footprint DIP8SM (Surface Mount DIP 8 package)
pins: 1, 2, 3, 4, 5, 6, 7, 8

## SW-SPDT
designator S?
SPDT Subminiature Toggle Switch, Right Angle Mounting, Vertical Actuation; Published: 24-Mar-1999; LatestRevisionDate: 17-Dec-2003; LatestRevisionNote: Schematic revised, PCB Footprint replaced.; DatasheetVersion: 05-Dec-2000; PackageReference: TL36WW15050; Publisher: Altium Limited; ComponentLink1Description: Manufacturer Link; ComponentLink1URL: http://www.apem.com
footprint TL36WW15050 (SPDT Subminiature Toggle Switch, Right Angle Mounting, Vertical Actuation)
pins: 1, 2, 3

## SW-SPDT - 3 position
designator S?, comment SW-SPDT - 3 position - Newark(13M4569)
SPDT Subminiature Toggle Switch, Right Angle Mounting, Vertical Actuation; Published: 24-Mar-1999; LatestRevisionDate: 17-Dec-2003; LatestRevisionNote: Schematic revised, PCB Footprint replaced.; DatasheetVersion: 05-Dec-2000; PackageReference: TL36WW15050; Publisher: Altium Limited; ComponentLink1Description: Manufacturer Link; ComponentLink1URL: http://www.apem.com
footprint TL36WW15050 (SPDT Subminiature Toggle Switch, Right Angle Mounting, Vertical Actuation)
footprint HDR1X3
pins: 1, 2, 3

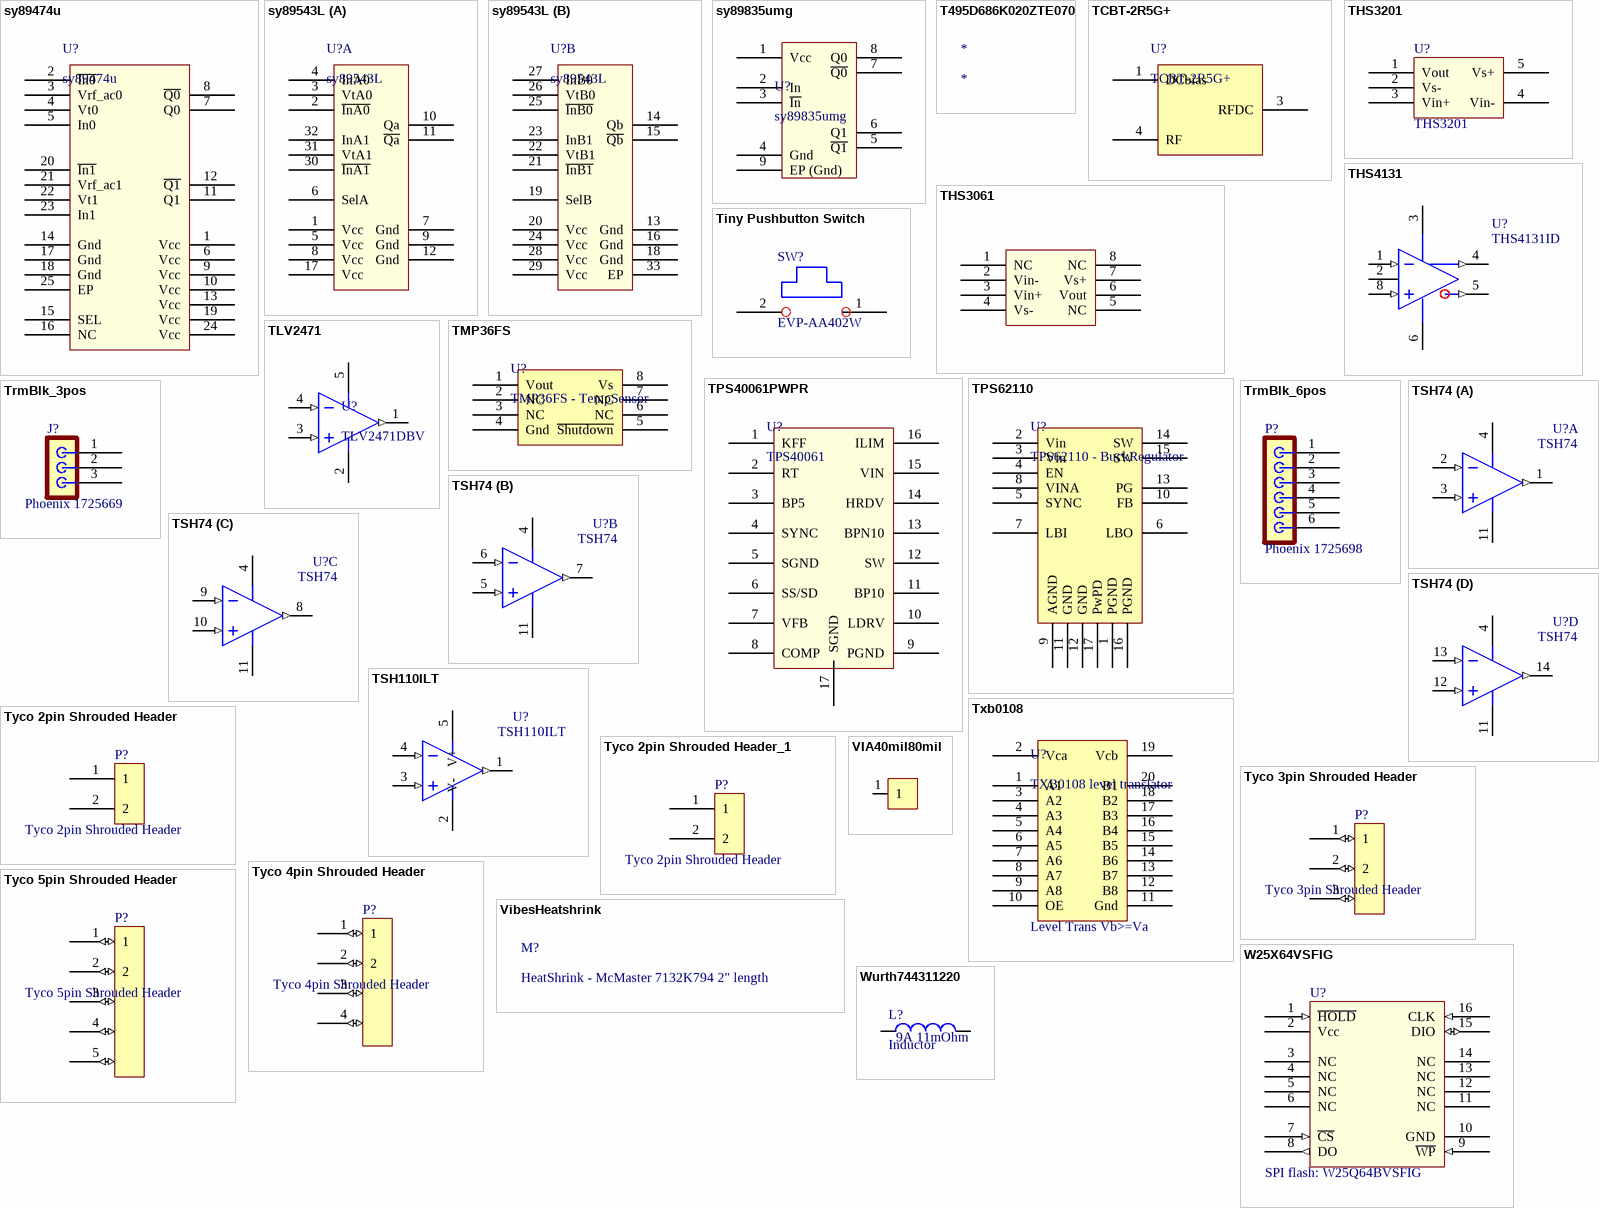
[diagram p10: symbols sy89474u to Wurth744311220]

## sy89474u
designator U?
2.5GHz 2:1 Multiplexer with 1:2 fanout
footprint QFN50P400X400X90-24N (QFN, 24-Leads, Body 4.1x4.1mm (max), Pitch 0.50mm, IPC Medium Density)
pins: 1 Vcc, 2 ~{In0}, 3 Vrf_ac0, 4 Vt0, 5 In0, 6 Vcc, 7 Q0, 8 ~{Q0}, 9 Vcc, 10 Vcc, 11 Q1, 12 ~{Q1}, 13 Vcc, 14 Gnd, 15 SEL, 16 NC, 17 Gnd, 18 Gnd, 19 Vcc, 20 ~{In1}, 21 Vrf_ac1, 22 Vt1, 23 In1, 24 Vcc, 25 EP

## sy89543L
designator U?
Dual 2:1 lvds Mux 88mA 3.3V 3.2Gbps; Manufacturer: Micrel; CanPurchaseFrom: Digikey; Value: sy89543L; Parts Constraints: sy89543L; Manufacturers P/N: sy89543L
footprint QFN50P500X500X90-32N (QFN, 32-Leads, Body 5.1x5.1mm (max), Pitch 0.50mm, IPC Medium Density)
part A pins: 1 Vcc, 2 ~{InA0}, 3 VtA0, 4 InA0, 5 Vcc, 6 SelA, 7 Gnd, 8 Vcc, 9 Gnd, 10 Qa, 11 ~{Qa}, 12 Gnd, 17 Vcc, 30 ~{InA1}, 31 VtA1, 32 InA1
part B pins: 13 Gnd, 14 Qb, 15 ~{Qb}, 16 Gnd, 18 Gnd, 19 SelB, 20 Vcc, 21 ~{InB1}, 22 VtB1, 23 InB1, 24 Vcc, 25 ~{InB0}, 26 VtB0, 27 InB0, 28 Vcc, 29 Vcc, 33 EP

## sy89835umg
designator U?
IC FANOUT BUFFER LVDS 1:2 8-MLF
footprint MLF-8 (QFN, 8-Leads, Body 2.0x2.0mm (max), Pitch 0.50mm, IPC Medium Density)
pins: 1 Vcc, 2 In, 3 ~{In}, 4 Gnd, 5 ~{Q1}, 6 Q1, 7 ~{Q0}, 8 Q0, 9 EP (Gnd)

## T495D686K020ZTE070
designator *

## TCBT-2R5G+
designator U?
Minicircuits 50 Ohm 20-2500Mhz RF Tee
footprint TCBT-2R5G+ (Minicircuits Bias-Tee 50 Ohm 20-2500MHz)
pins: 1 DCbias, 3 RFDC, 4 RF

## THS3061
designator *
footprint SO8/L200
pins: 1 NC, 2 Vin-, 3 Vin+, 4 Vs-, 5 NC, 6 Vout, 7 Vs+, 8 NC

## THS3201
designator U?
footprint SOT23-5
pins: 1 Vout, 2 Vs-, 3 Vin+, 4 Vin-, 5 Vs+

## THS4131
designator U?, comment THS4131ID
Amp, FULLY-DIFFERENTIAL Op Amp; Manufacturer: Texas Instruments; Footprint: SO-G8 (SOIC); Manufacturers P/N: THS4131ID
simulation model ths4131 (SUBCKT)
footprint SO-G8 (SOIC)
pins: 1 (in), 2, 3 (power), 4 (out), 5 (out), 6 (power), 7 NC hidden, 8 (in)

## Tiny Pushbutton Switch
designator SW?, comment EVP-AA402W
Switch, SM pushbutton SPST; Manufacturer: Panasonic - ECG; Footprint: *; Manufacturers P/N: EVP-AA402W
footprint EVPAA
pins: 1, 2

## TLV2471
designator U?, comment TLV2471DBV
35mA 2.8MHz GBP
footprint SOT23-5
pins: 1 OUT (out), 2 Gnd (power), 3 IN+ (in), 4 IN- (in), 5 Vcc (power)

## TMP36FS
designator U?, comment TMP36FS - TempSensor
footprint SO8/L200
pins: 1 Vout, 2 NC, 3 NC, 4 Gnd, 5 ~{Shutdown}, 6 NC, 7 NC, 8 Vs

## TPS40061PWPR
designator U?, comment TPS40061
Buck Controller
footprint TSOP65P640X120_HS-16N (TSOP, 16-Leads, Body 5.1x4.5mm (max), Pitch 0.65mm, IPC Medium Density)
pins: 1 KFF, 2 RT, 3 BP5, 4 SYNC, 5 SGND, 6 SS/SD, 7 VFB, 8 COMP, 9 PGND, 10 LDRV, 11 BP10, 12 SW, 13 BPN10, 14 HRDV, 15 VIN, 16 ILIM, 17 SGND

## TPS62110
designator U?, comment TPS62110 - BuckRegulator
Buck Converter 1Mhz 1.5A
footprint RSA (S-PQFP-N16) (QFN, 16-Leads, Body 4.2x4.2mm (max), Pitch 0.65mm, IPC Medium Density)
pins: 1 PGND, 2 Vin, 3 Vin, 4 EN, 5 SYNC, 6 LBO, 7 LBI, 8 VINA, 9 AGND, 10 FB, 11 GND, 12 GND, 13 PG, 14 SW, 15 SW, 16 PGND, 17 PwPD

## TrmBlk_3pos
designator J?, comment Phoenix 1725669
CONN, MPT 0.5/3-2.54 Terminal Block; Manufacturer: Phoenix Contact; Manufacturers P/N: 1725698; Footprint: *
footprint PHOENIX_1725669-3PIN (Footprint not found)
pins: 1, 2, 3

## TrmBlk_6pos
designator P?, comment Phoenix 1725698
CONN, MPT 0.5/6-2.54 Terminal Block; Manufacturer: Phoenix Contact; Footprint: *; Manufacturers P/N: 1725698
footprint TrmBlk6
pins: 1, 2, 3, 4, 5, 6

## TSH74
designator U?
Amp, High Precision, Low Noise  Op Amp; Manufacturer: ST; Footprint: *; Manufacturers P/N: TSH74
footprint Model Name (Footprint not found)
part A pins: 1 OUT (out), 2 IN- (in), 3 IN+ (in), 4 GND (power), 11 VDD (power)
part B pins: 4 GND (power), 5 IN+ (in), 6 IN- (in), 7 OUT (out), 11 VDD (power)
part C pins: 4 GND (power), 8 OUT (out), 9 IN- (in), 10 IN+ (in), 11 VDD (power)
part D pins: 4 GND (power), 11 VDD (power), 12 IN+ (in), 13 IN- (in), 14 OUT (out)

## TSH110ILT
designator U?
Amp, High Precision, Low Noise  Op Amp; Manufacturer: ST; Footprint: *; Manufacturers P/N: TSH110ILT
footprint SOT23-5
pins: 1 OUT (out), 2 V- (power), 3 IN+ (in), 4 IN- (in), 5 V+ (power)

## Txb0108
designator U?, comment TXB0108 level translator
8bit level translator - Bidirectional without directional control
footprint TSOP65P640X120-20N (TSOP, 20-Leads, Body 6.6x4.5mm (max), Pitch 0.65mm, IPC Medium Density)
pins: 1 A1, 2 Vca, 3 A2, 4 A3, 5 A4, 6 A5, 7 A6, 8 A7, 9 A8, 10 OE, 11 Gnd, 12 B8, 13 B7, 14 B6, 15 B5, 16 B4, 17 B3, 18 B2, 19 Vcb, 20 B1
text: Level Trans Vb>=Va

## Tyco 2pin Shrouded Header
designator P?
footprint Tyco 2pin Shrouded Header
pins: 1, 2

## Tyco 2pin Shrouded Header_1
designator P?, comment Tyco 2pin Shrouded Header
footprint Tyco 2pin Shrouded Header
pins: 1, 2

## Tyco 3pin Shrouded Header
designator P?
footprint Tyco 3pin Shrouded Header
pins: 1 (io), 2 (io), 3 (io)

## Tyco 4pin Shrouded Header
designator P?
footprint Tyco 4pin Shrouded Header
pins: 1 (io), 2 (io), 3 (io), 4 (io)

## Tyco 5pin Shrouded Header
designator P?
footprint Tyco 5pin Shrouded Header
pins: 1 (io), 2 (io), 3 (io), 4 (io), 5 (io)

## VIA40mil80mil
designator V?  (value not drawn)
footprint VIA40mil80mil (Via with 40mil hole and 80mil diameter)
pins: 1

## VibesHeatshrink
designator M?, comment HeatShrink - McMaster 7132K794 2" length
Vibes board Heat Shrink

## W25X64VSFIG
designator U?, comment SPI flash: W25Q64BVSFIG
Manufacturer: Winbond Electronics; Manufacturers P/N: W25Q64BVSFIG
footprint SOIC127P1030X264-16N (SOIC, 16-Leads, Body 10.5x7.6mm (max), Pitch 1.27mm, IPC Medium Density)
footprint sol16
pins: 1 ~{HOLD} (in), 2 Vcc (power), 3 NC (hiz), 4 NC (hiz), 5 NC (hiz), 6 NC (hiz), 7 ~{CS} (in), 8 DO (out), 9 ~{WP} (in), 10 GND (power), 11 NC (hiz), 12 NC (hiz), 13 NC (hiz), 14 NC (hiz), 15 DIO (io), 16 CLK (in)

## Wurth744311220
designator L?, comment Inductor
footprint Wurth744311220 (Inductor)
pins: 1, 2
text: 9A 11mOhm

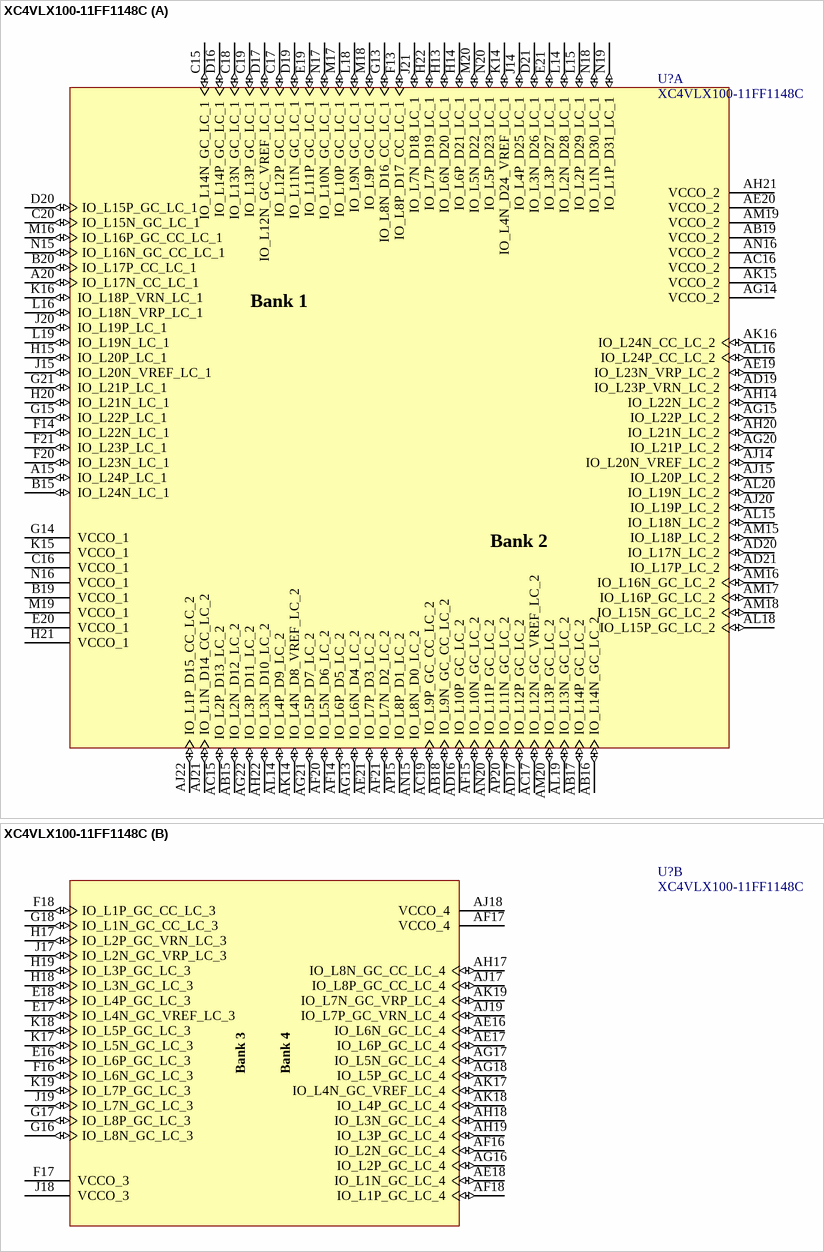
[diagram p11: symbol XC4VLX100-11FF1148C]

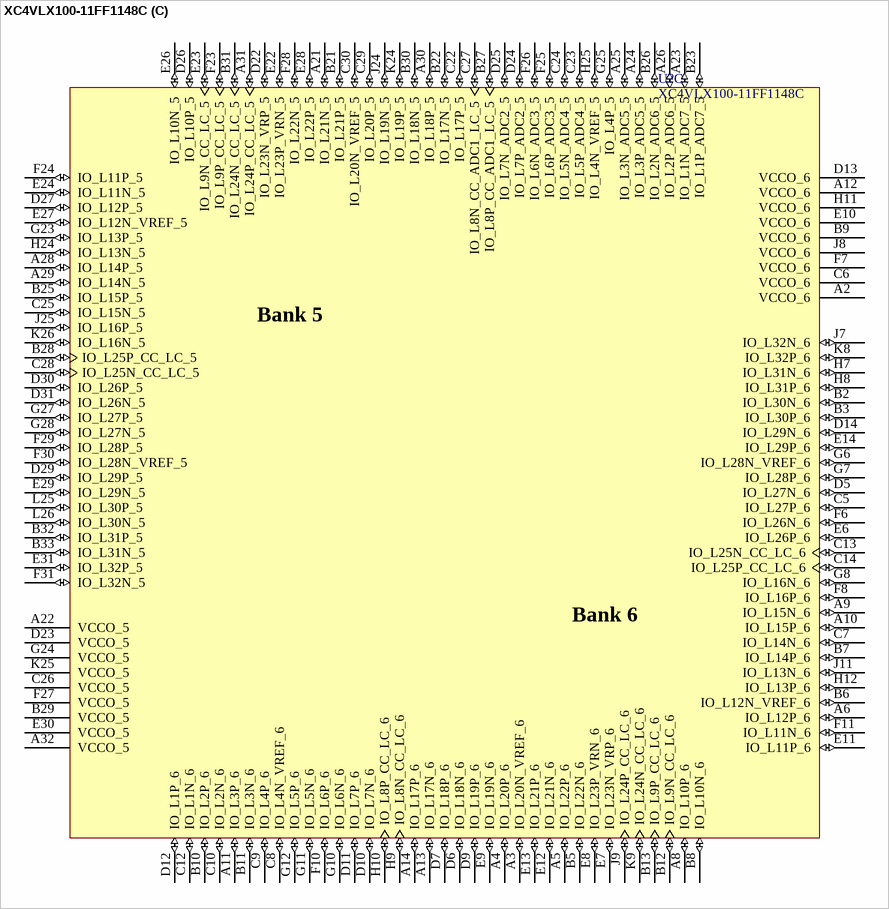
[diagram p12: symbol XC4VLX100-11FF1148C]

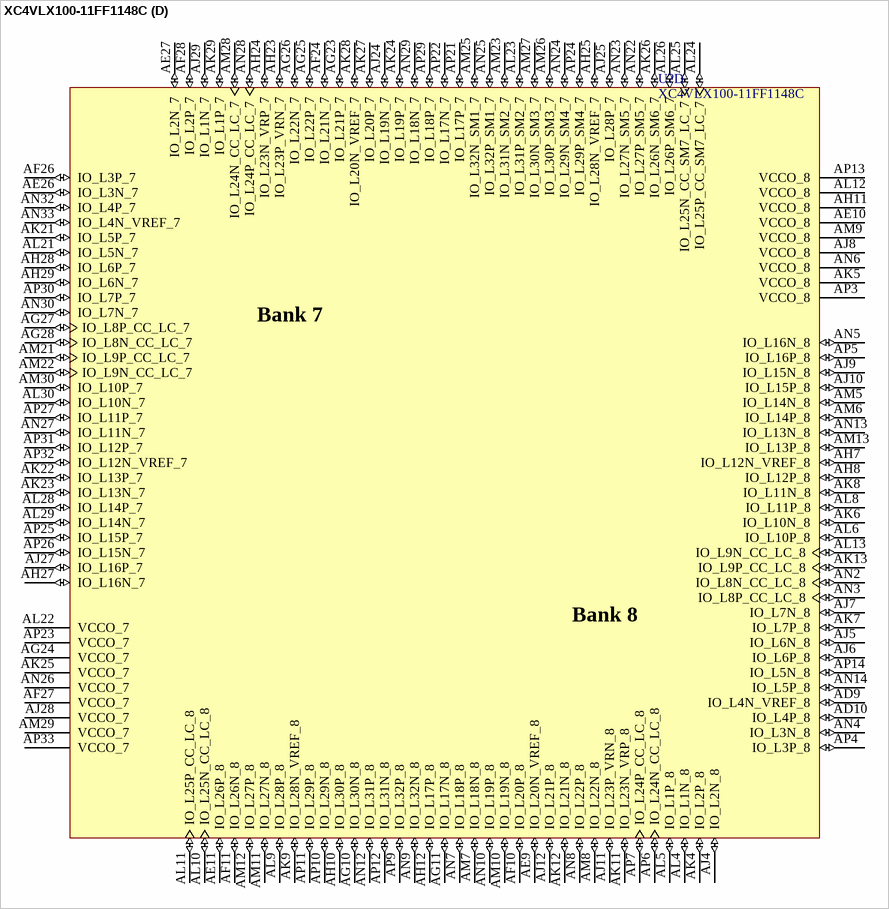
[diagram p13: symbol XC4VLX100-11FF1148C]

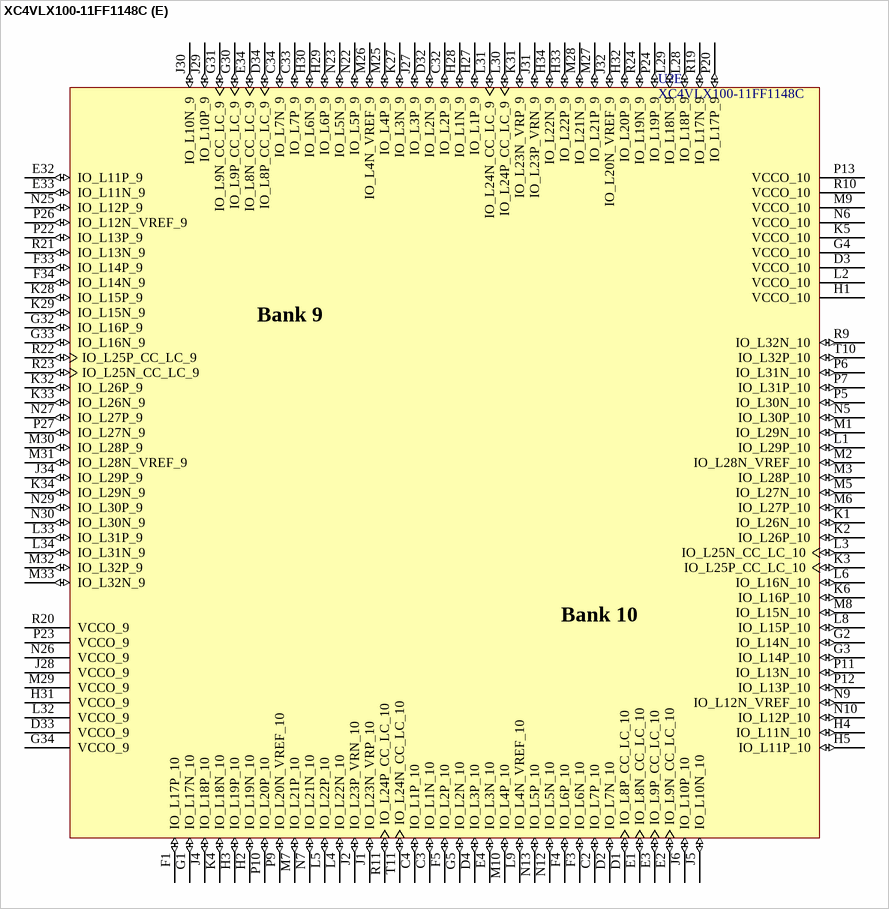
[diagram p14: symbol XC4VLX100-11FF1148C]

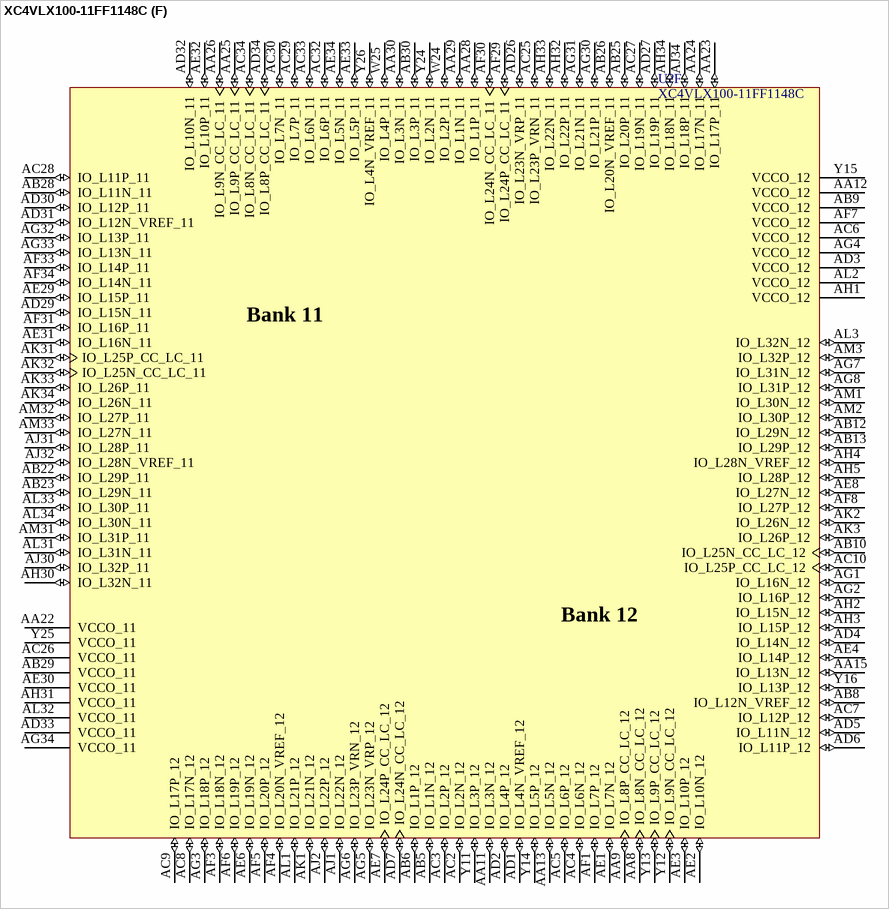
[diagram p15: symbol XC4VLX100-11FF1148C]

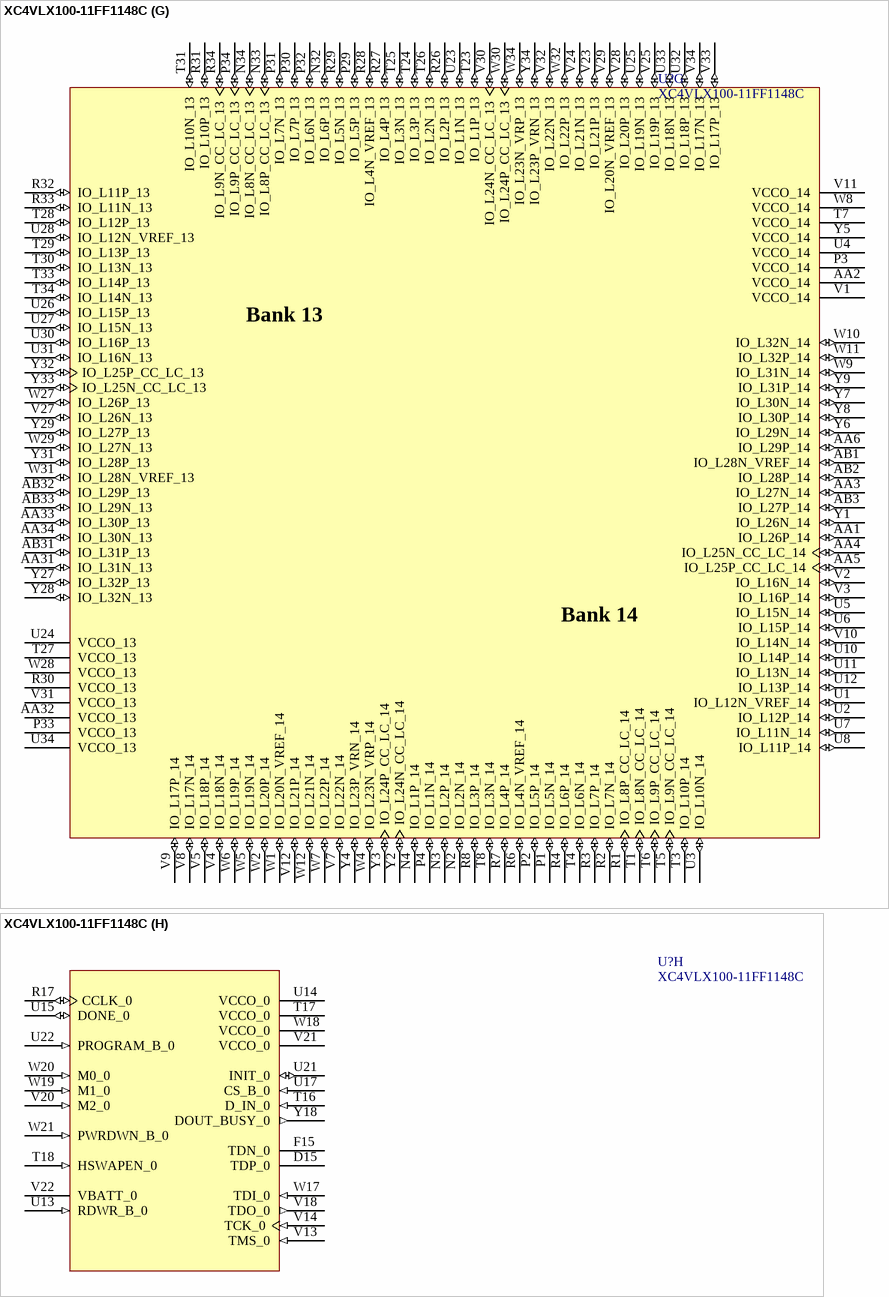
[diagram p16: symbol XC4VLX100-11FF1148C]

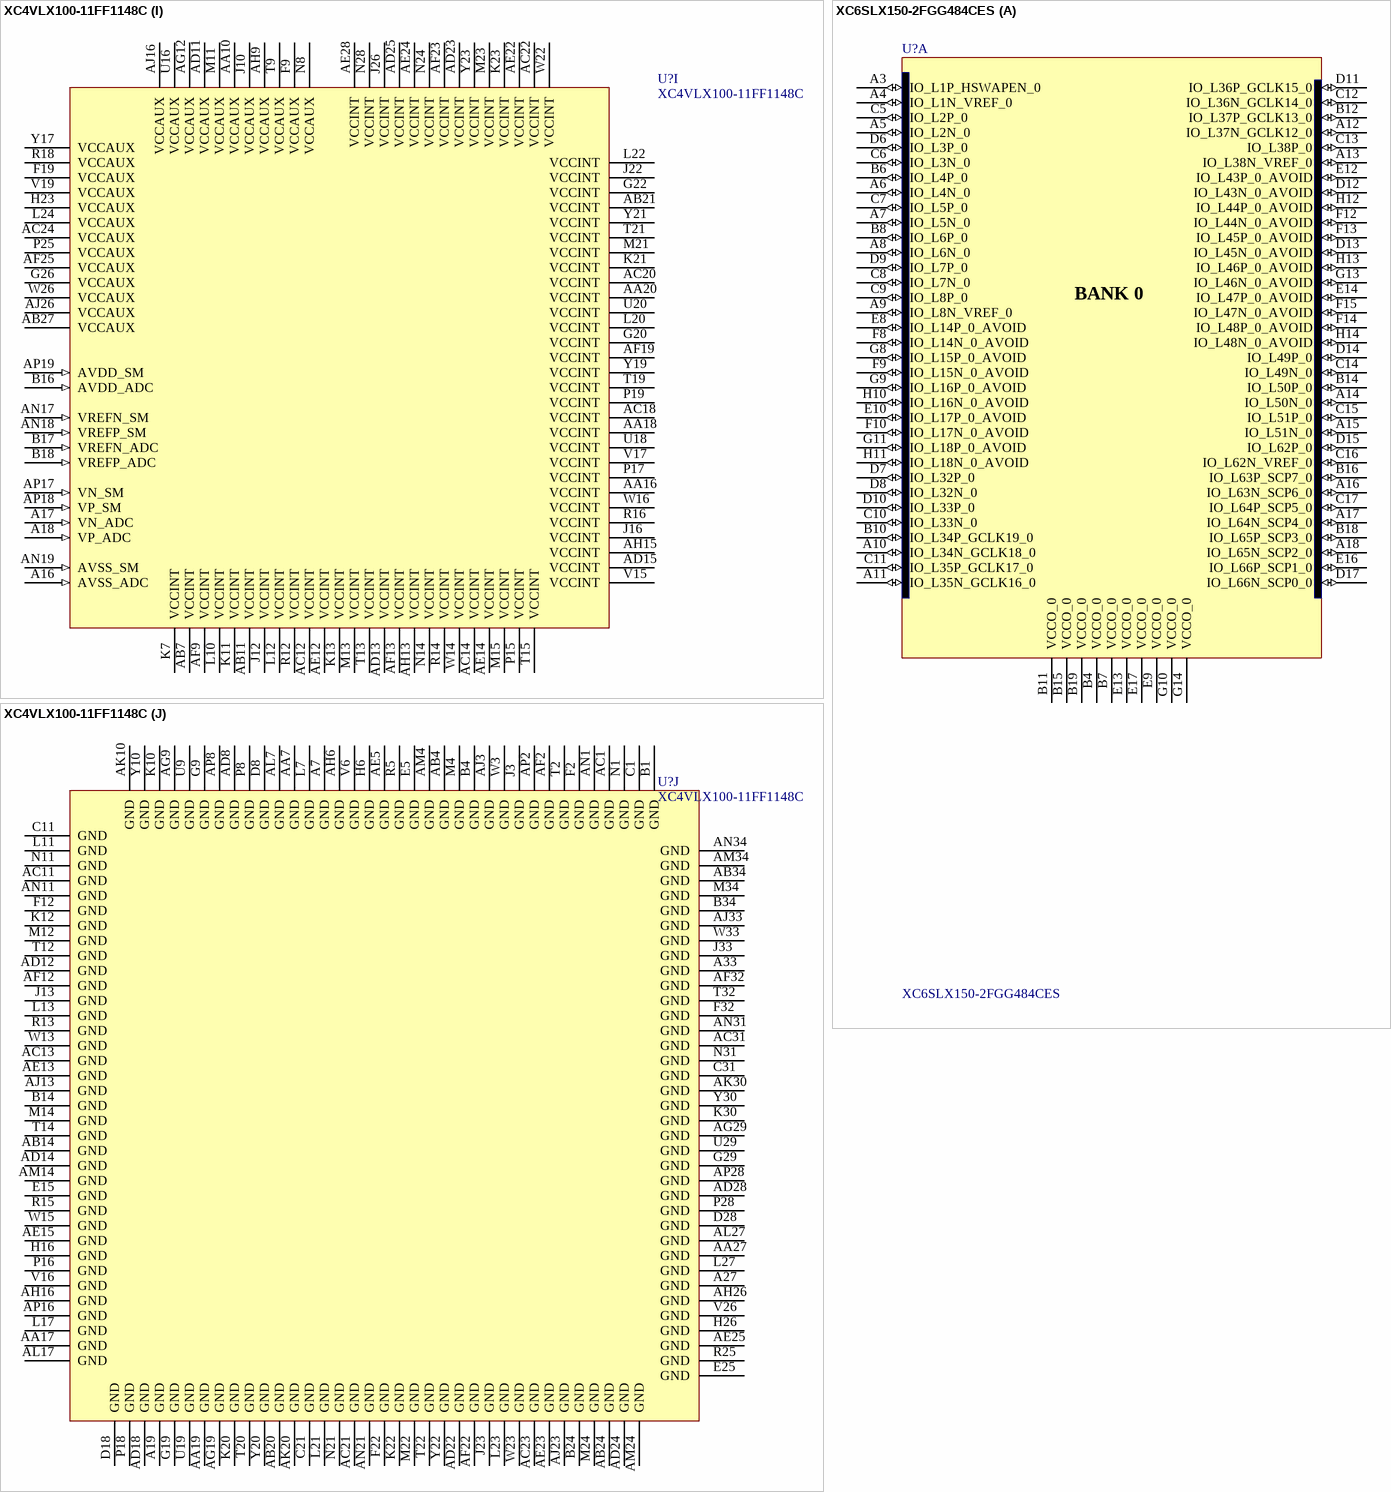
[diagram p17: symbols XC4VLX100-11FF1148C to XC6SLX150-2FGG484CES]